# Altium schematic symbol library Amin-Library.SCHLIB: 505 symbols (part 2 of 4)
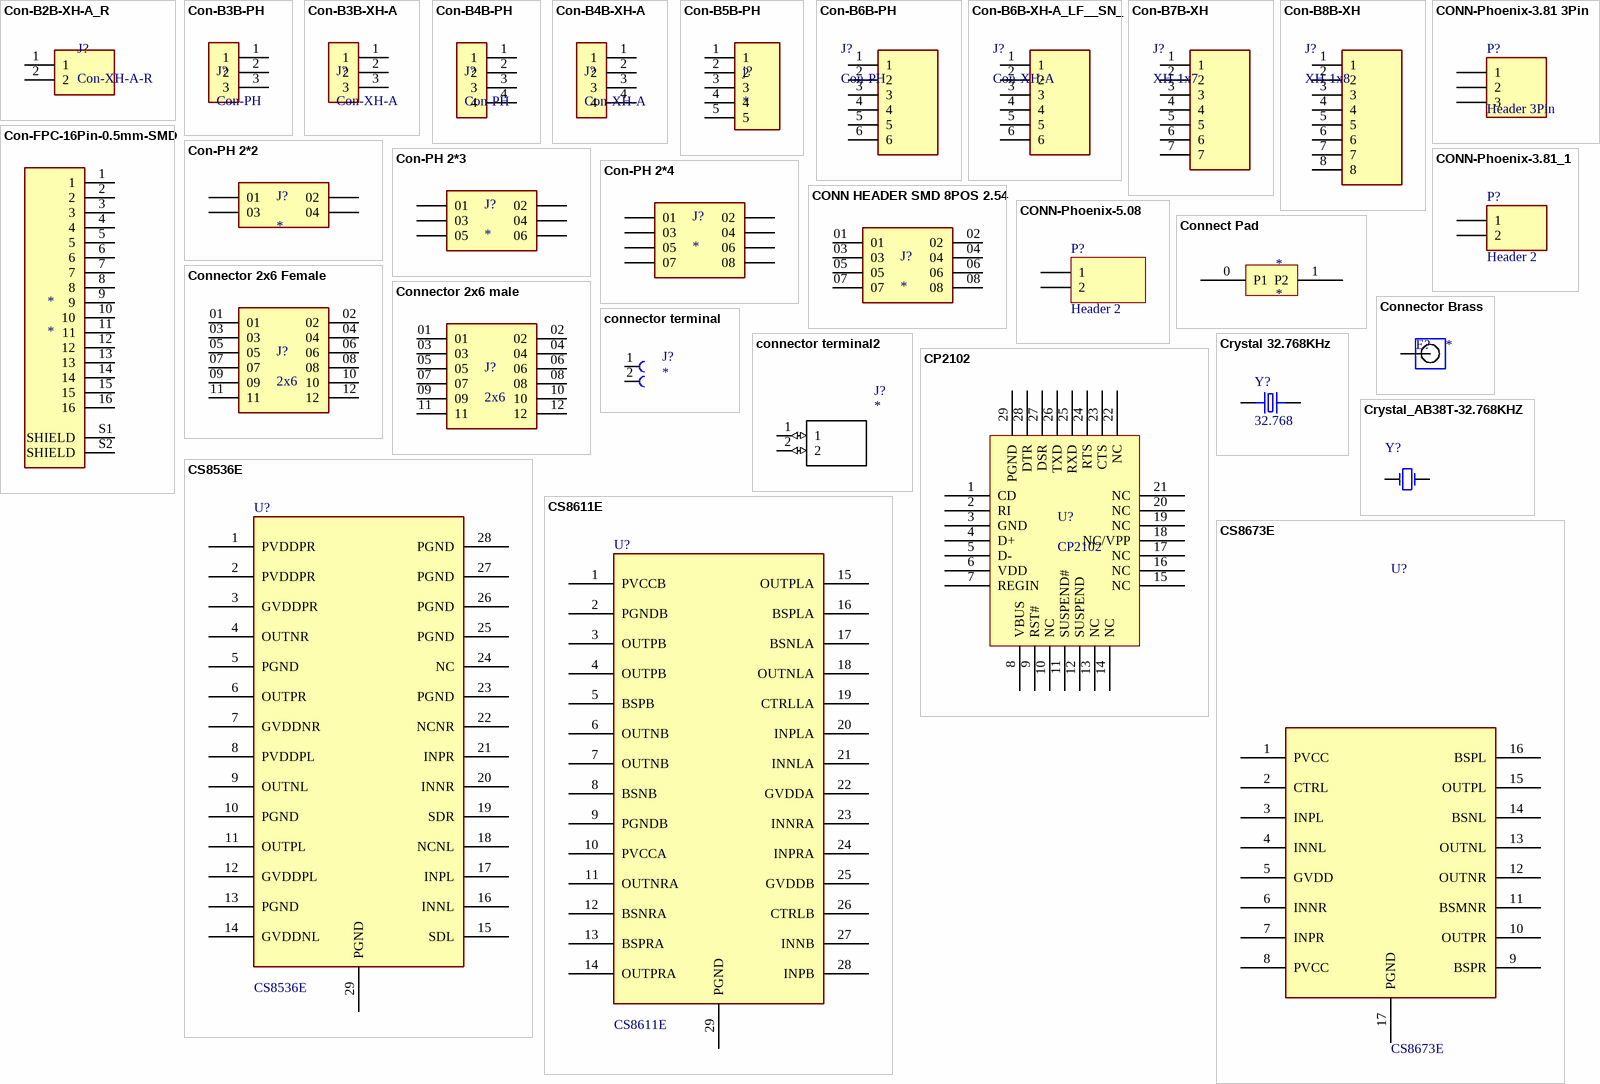
[diagram p19: symbols Con-B2B-XH-A_R to CS8673E]

## connector terminal2
designator J?
5.08mm Pitch Straight PCB Terminal Block with Screw Term.; Through Hole; 2 Way; MP: 4948956; MF: RS Pro; Price: None; Package: None; SnapEDA_Link: https://www.snapeda.com/parts/4948956/RS%20Pro/view-part/1278850/?ref=snap; Availability: Unavailable; Value: *
footprint Connector terminal
pins: 1 (io), 2 (io)

## CP2102
designator U?
USB to USRT converter
footprint QFN28 (PQFN, 28-Leads, Body 5.00x5.00mm, Pitch 0.50mm, Thermal Pad 3.24x3.24mm, IPC Medium Density)
pins: 1 CD, 2 RI, 3 GND, 4 D+, 5 D-, 6 VDD, 7 REGIN, 8 VBUS, 9 RST#, 10 NC, 11 SUSPEND#, 12 SUSPEND, 13 NC, 14 NC, 15 NC, 16 NC, 17 NC, 18 NC/VPP, 19 NC, 20 NC, 21 NC, 22 NC, 23 CTS, 24 RTS, 25 RXD, 26 TXD, 27 DSR, 28 DTR, 29 PGND

## Crystal 32.768KHz
designator Y?, comment 32.768
32.768 KHz Dip ±20ppm 12.5pf; MP: ECS-130-20-3X-TR; MF: ECS Inc.; Value: *; SnapEDA_Link: https://www.snapeda.com/parts/ECS-130-20-3X-TR/ECS%20Inc./view-part/2459108/?ref=snap; Check_prices: https://www.snapeda.com/parts/ECS-130-20-3X-TR/ECS%20Inc./view-part/2459108/?ref=eda; Purchase-URL: https://pricing.snapeda.com/search/part/ECS-130-20-3X-TR/?ref=eda; Availability: Warning; Price: None; Package: HC49/US ECS International
footprint Crystal_32768
pins: 1, 2

## Crystal_AB38T-32.768KHZ
designator Y?  (value not drawn)
MF: ECS International; MP: ECS-320-18-5PXEN-TR; Availability: Unavailable; Price: None; Package: None; SnapEDA_Link: https://www.snapeda.com/parts/ECS-320-18-5PXEN-TR/ECS%20International/view-part/?ref=snap; Value: *
footprint Crystal_AB38T-32.768KHZ (XTAL_AB38T-32.768KHZ)
pins: 1 OSC1, 2 OSC2

## CS8536E
designator U?
AB/D 2X27W; Manufacturer_Name: Chipstar; Height: 2.47mm; Manufacturer_Part_Number: CS8536E; Arrow Part Number: CS8536E; Arrow Price/Stock: https://www.arrow.com/en/products/tda7491hv13tr/stmicroelectronics; Mouser Part Number: 511-TDA7491HV13TR; Mouser Price/Stock: https://www.mouser.com/Search/Refine.aspx?Keyword=511-TDA7491HV13TR
footprint CS8536E (EQA28)
pins: 1 PVDDPR, 2 PVDDPR, 3 GVDDPR, 4 OUTNR, 5 PGND, 6 OUTPR, 7 GVDDNR, 8 PVDDPL, 9 OUTNL, 10 PGND, 11 OUTPL, 12 GVDDPL, 13 PGND, 14 GVDDNL, 15 SDL, 16 INNL, 17 INPL, 18 NCNL, 19 SDR, 20 INNR, 21 INPR, 22 NCNR, 23 PGND, 24 NC, 25 PGND, 26 PGND, 27 PGND, 28 PGND, 29 PGND

## CS8611E
designator U?
2*15W+30W; Height: 2.47mm
footprint CS8611E
pins: 1 PVCCB, 2 PGNDB, 3 OUTPB, 4 OUTPB, 5 BSPB, 6 OUTNB, 7 OUTNB, 8 BSNB, 9 PGNDB, 10 PVCCA, 11 OUTNRA, 12 BSNRA, 13 BSPRA, 14 OUTPRA, 15 OUTPLA, 16 BSPLA, 17 BSNLA, 18 OUTNLA, 19 CTRLLA, 20 INPLA, 21 INNLA, 22 GVDDA, 23 INNRA, 24 INPRA, 25 GVDDB, 26 CTRLB, 27 INNB, 28 INPB, 29 PGND

## CS8673E
designator U?
AB/D 2X40W BTL & 80W PBTL ESOP16; Manufacturer_Name: Chipstar; Manufacturer_Part_Number: CS8679E; Height: 2.47mm; Arrow Part Number: CS8679E; Arrow Price/Stock: https://www.arrow.com/en/products/tda7491hv13tr/stmicroelectronics; Mouser Part Number: 511-TDA7491HV13TR; Mouser Price/Stock: https://www.mouser.com/Search/Refine.aspx?Keyword=511-TDA7491HV13TR
footprint CS8673E (ESOP16)
pins: 1 PVCC, 2 CTRL, 3 INPL, 4 INNL, 5 GVDD, 6 INNR, 7 INPR, 8 PVCC, 9 BSPR, 10 OUTPR, 11 BSMNR, 12 OUTNR, 13 OUTNL, 14 BSNL, 15 OUTPL, 16 BSPL, 17 PGND

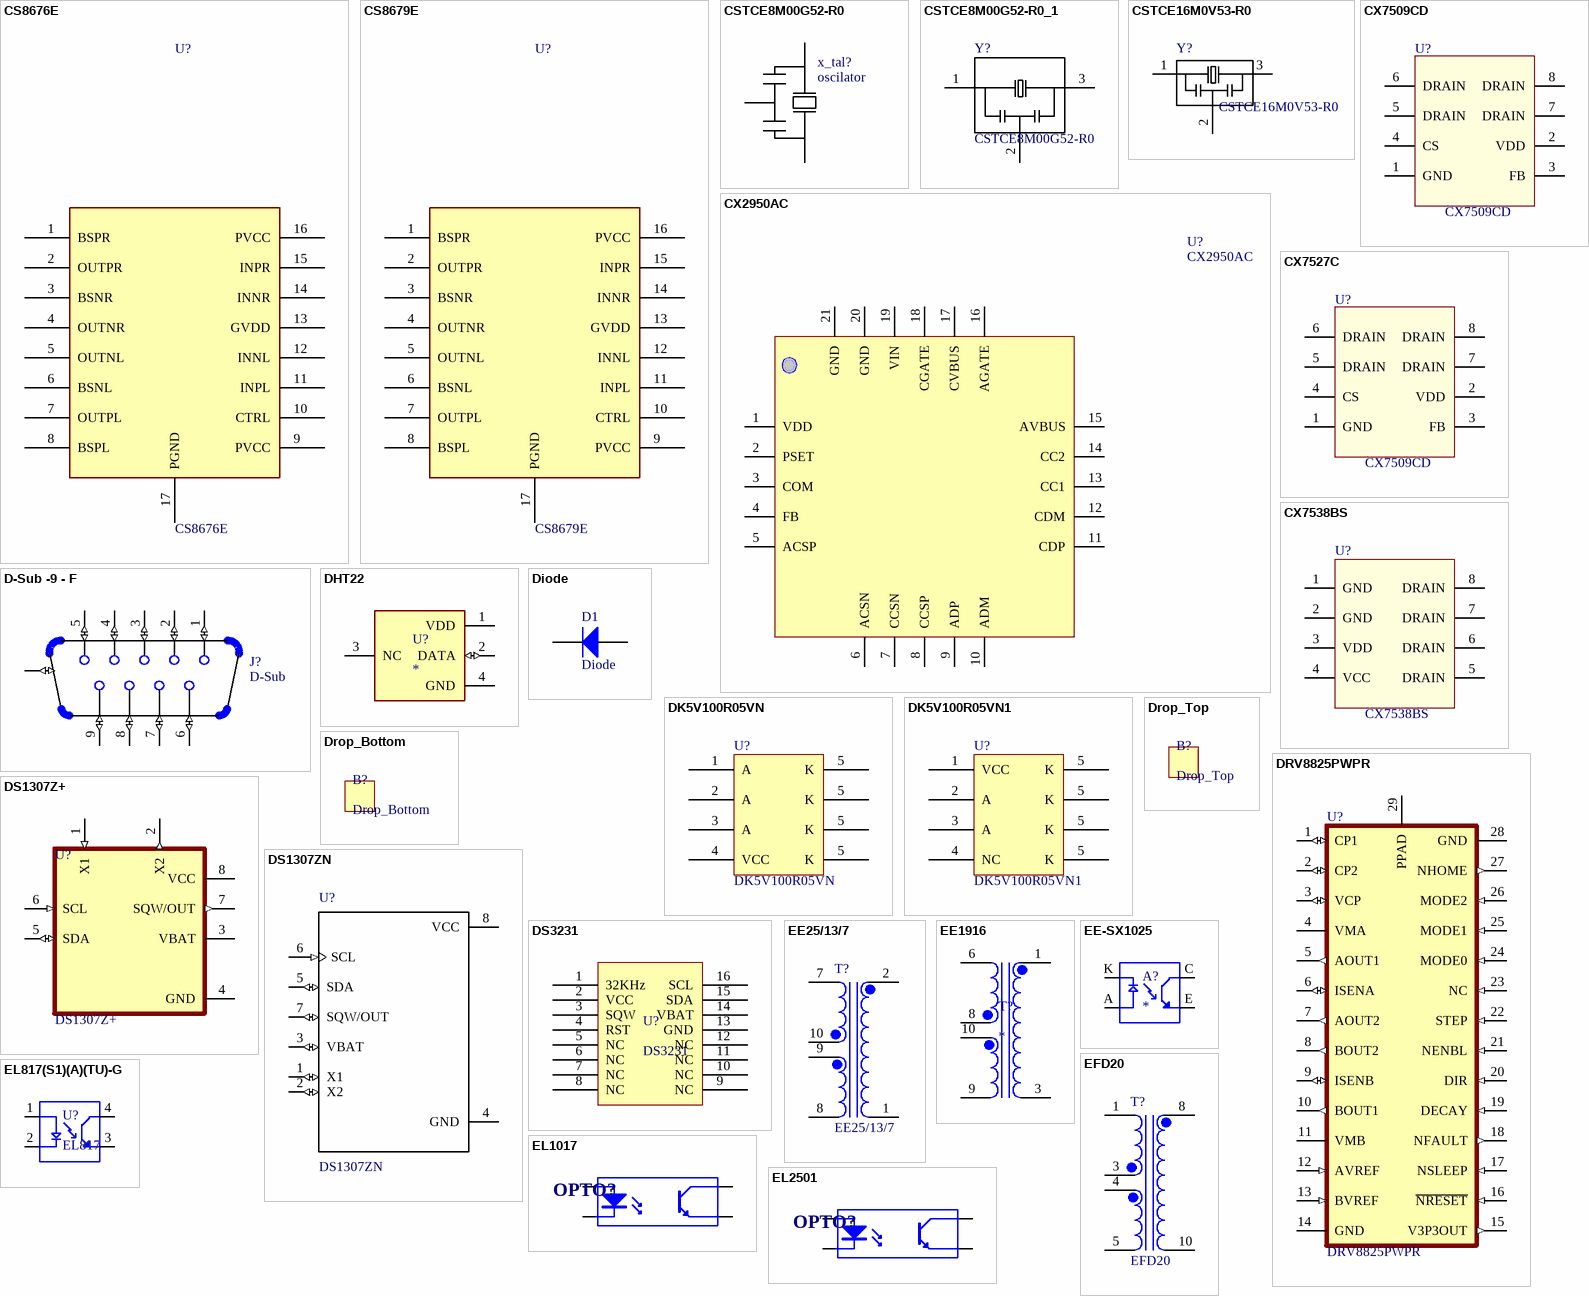
[diagram p5: symbols CS8676E to EL2501]

## CS8676E
designator U?
AB/D 2X33W BTL & 68W PBTL ESOP16; Manufacturer_Name: Chipstar; Manufacturer_Part_Number: CS8679E; Height: 2.47mm; Arrow Part Number: CS8679E; Arrow Price/Stock: https://www.arrow.com/en/products/tda7491hv13tr/stmicroelectronics; Mouser Part Number: 511-TDA7491HV13TR; Mouser Price/Stock: https://www.mouser.com/Search/Refine.aspx?Keyword=511-TDA7491HV13TR
footprint CS8676 (ESOP16)
pins: 1 BSPR, 2 OUTPR, 3 BSNR, 4 OUTNR, 5 OUTNL, 6 BSNL, 7 OUTPL, 8 BSPL, 9 PVCC, 10 CTRL, 11 INPL, 12 INNL, 13 GVDD, 14 INNR, 15 INPR, 16 PVCC, 17 PGND

## CS8679E
designator U?
AB/D 2X28W BTL & 50W PBTL; Manufacturer_Name: Chipstar; Height: 2.47mm; Manufacturer_Part_Number: CS8679E; Arrow Part Number: CS8679E; Arrow Price/Stock: https://www.arrow.com/en/products/tda7491hv13tr/stmicroelectronics; Mouser Part Number: 511-TDA7491HV13TR; Mouser Price/Stock: https://www.mouser.com/Search/Refine.aspx?Keyword=511-TDA7491HV13TR
footprint CS8679 (EQA16)
pins: 1 BSPR, 2 OUTPR, 3 BSNR, 4 OUTNR, 5 OUTNL, 6 BSNL, 7 OUTPL, 8 BSPL, 9 PVCC, 10 CTRL, 11 INPL, 12 INNL, 13 GVDD, 14 INNR, 15 INPR, 16 PVCC, 17 PGND

## CSTCE8M00G52-R0
designator x_tal?, comment oscilator
Imported; Manufacturer_Part_Number: CSTCE8M00G52-R0; Vendor: Murata; C: Copyright (C) 2016 Accelerated Designs. All rights reserved; Copyright: Copyright (C) 2016 Accelerated Designs. All rights reserved; Value: Value
footprint CSTCE
pins: 1, 2, 3

## CSTCE8M00G52-R0_1
designator Y?, comment CSTCE8M00G52-R0
CSTCE Series 8 MHz 3.2 x 1.3 x 0.7 mm Built-in Capacitor SMT Resonator; MF: Murata; Availability: Unavailable; Price: None; Package: 1206 Murata; SnapEDA_Link: https://www.snapeda.com/parts/CSTCE8M00G52-R0/Murata%20Electronics%20North%20America/view-part/?ref=snap; MP: CSTCE8M00G52-R0; Value: *
footprint *OSC_CSTCE8M00G52-R0
pins: 1, 2 (power), 3

## CSTCE16M0V53-R0
designator Y?
Ceramic Resonator 16MHz ??0.5% _Tol_ ??0.3% _Stability_ 15pF 40Ohm 3-Pin CSMD T/R; MF: Murata; MP: CSTCE16M0V53-R0; Availability: Unavailable; Package: SMD-3 Murata; Price: None; SnapEDA_Link: https://www.snapeda.com/parts/CSTCE16M0V53-R0/Murata%20Electronics%20North%20America/view-part/?ref=snap; Value: *
footprint CSTCE
pins: 1, 2 (power), 3

## CX2950AC
designator U?
PD 18W & 27W
footprint CX2950AC (QFN20_4X4)
pins: 1 VDD, 2 PSET, 3 COM, 4 FB, 5 ACSP, 6 ACSN, 7 CCSN, 8 CCSP, 9 ADP, 10 ADM, 11 CDP, 12 CDM, 13 CC1, 14 CC2, 15 AVBUS, 16 AGATE, 17 CVBUS, 18 CGATE, 19 VIN, 20 GND, 21 GND

## CX7509CD
designator U?
PWM Controller of High-performance CX7509CD SOP8; MF: Toshiba Semiconductor; MP: TPHR8504PL,L1Q; Package: SOP-8 Toshiba; Price: None; Value: *; SnapEDA_Link: https://www.snapeda.com/parts/TPHR8504PL,L1Q/Toshiba%20Semiconductor%20and%20Storage/view-part/604439/?ref=snap; Availability: Unavailable
footprint CX7509CD (SOP8)
pins: 1 GND, 2 VDD (power), 3 FB (power), 4 CS, 5 DRAIN, 6 DRAIN, 7 DRAIN, 8 DRAIN

## CX7527C
designator U?, comment CX7509CD
PWM Controller of High-performance CX7527CD SOP8; MF: Toshiba Semiconductor; MP: TPHR8504PL,L1Q; Package: SOP-8 Toshiba; Price: None; Value: *; SnapEDA_Link: https://www.snapeda.com/parts/TPHR8504PL,L1Q/Toshiba%20Semiconductor%20and%20Storage/view-part/604439/?ref=snap; Availability: Unavailable
footprint CX7527C (SOP8)
pins: 1 GND, 2 VDD (power), 3 FB (power), 4 CS, 5 DRAIN, 6 DRAIN, 7 DRAIN, 8 DRAIN

## CX7538BS
designator U?
High-Performance / Switching Power Supply / Secondary Synchronous Rectifier IC; MF: Toshiba Semiconductor; MP: TPHR8504PL,L1Q; Package: SOP-8 Toshiba; Price: None; Value: *; SnapEDA_Link: https://www.snapeda.com/parts/TPHR8504PL,L1Q/Toshiba%20Semiconductor%20and%20Storage/view-part/604439/?ref=snap; Availability: Unavailable
footprint CX7538BS (SOP8)
pins: 1 GND, 2 GND (power), 3 VDD (power), 4 VCC, 5 DRAIN, 6 DRAIN, 7 DRAIN, 8 DRAIN

## D-Sub -9 - F
designator J?, comment D-Sub
10.3mm 9 way 90deg D-sub PCB Socket; MP: 618009231321; MF: WÃ¼rth Elektronik; Availability: Unavailable; Package: None; SnapEDA_Link: https://www.snapeda.com/parts/618009231321/W%C3%BCrth%20Elektronik/view-part/?ref=snap; Price: None; Value: *
footprint *618009231321_618009231321(Primary)
pins: 1 (io), 2 (io), 3 (io), 4 (io), 5 (io), 6 (io), 7 (io), 8 (io), 9 (io), SHELL SHIELD (io), SHELL1 SHIELD (io)

## DHT22
designator U?
MP: DHT22; Package: None; Price: None; Value: *; Availability: Unavailable
footprint DHT22_Right
footprint DHT22_Vertical
pins: 1 VDD (power), 2 DATA (io), 3 NC, 4 GND (power)

## Diode
designator D1
Default Diode; Published: 8-Jun-2000; LatestRevisionDate: 17-Jul-2002; LatestRevisionNote: Re-released for DXP Platform.; PackageVersion: Sep-1996; PackageReference: SMC; Publisher: Altium Limited; PackageDescription: DO-214-AB/SMC; 2 C-Bend Leads; Body 7.9 x 5.9 mm, inc. leads (LxW); Code_JEDEC: DO-214-AB
footprint Diode (JEDEC DO-214 variation AC. SMA)
pins: 1 A, 2 K

## DK5V100R05VN
designator U?
footprint DK5V100R05VN (DFN5*6)
pins: 1 A, 2 A, 3 A, 4 VCC, 5 K, 5 K, 5 K, 5 K

## DK5V100R05VN1
designator U?
footprint DK5V100R05VN1 (DFN5*6)
pins: 1 VCC, 2 A, 3 A, 4 NC, 5 K, 5 K, 5 K, 5 K

## Drop_Bottom
designator B?
footprint Drop_Bottom

## Drop_Top
designator B?
footprint Drop_Top

## DRV8825PWPR
designator U?
45-V, 2.5-A bipolar stepper motor driver with current regulation and 1/32 microstepping 28-HTSSOP -40 to 85; MF: Texas Instruments; Package: HTSSOP-28 Texas Instruments; SnapEDA_Link: https://www.snapeda.com/parts/DRV8825PWPR/Texas%20Instruments/view-part/448611/?ref=snap; Digi-Key_Part_Number: 296-29503-1-ND; MP: DRV8825PWPR; Mouser-Purchase-URL: https://snapeda.com/shop?store=Mouser&id=448611; Value: *; Texas_Instruments-Purchase-URL: https://snapeda.com/shop?store=Texas+Instruments&id=448611; Arrow_Electronics-Purchase-URL: https://snapeda.com/shop?store=Arrow+Electronics&id=448611
footprint DRV8825PWPR (HTSSOP-28)
pins: 1 CP1 (io), 2 CP2 (io), 3 VCP (io), 4 VMA (power), 5 AOUT1 (out), 6 ISENA (io), 7 AOUT2 (out), 8 BOUT2 (out), 9 ISENB (io), 10 BOUT1 (out), 11 VMB (power), 12 AVREF (in), 13 BVREF (in), 14 GND (power), 15 V3P3OUT (out), 16 ~{NRESET} (in), 17 NSLEEP (in), 18 NFAULT (out), 19 DECAY (in), 20 DIR (in), 21 NENBL (in), 22 STEP (in), 23 NC (in), 24 MODE0 (in), 25 MODE1 (in), 26 MODE2 (in), 27 NHOME (out), 28 GND (power), 29 PPAD (power)

## DS1307Z+
designator U?
Real Time Clock _RTC_ IC Clock/Calendar 56B IÂ²C, 2-Wire Serial 8-SOIC _0.154, 3.90mm Width_; MF: Maxim Integrated; Availability: Unavailable; SnapEDA_Link: https://www.snapeda.com/parts/DS1307Z/Maxim%20Integrated/view-part/524266/?ref=snap; Price: None; Package: SO-8 Maxim Integrated; MP: DS1307Z; Value: *
footprint DS1307
pins: 1 X1 (in), 2 X2 (out), 3 VBAT (power), 4 GND (power), 5 SDA (io), 6 SCL (in), 7 SQW/OUT (out), 8 VCC (power)

## DS1307ZN
designator U?
Real Time Clock Serial 56Byte 8-Pin SOIC N; MF: Maxim Integrated; Availability: Unavailable; MP: DS1307ZN; Package: SO-8 Maxim Integrated; SnapEDA_Link: https://www.snapeda.com/parts/DS1307ZN/Maxim%20Integrated/view-part/?ref=snap; Price: None; Value: *
footprint DS1307
pins: 1 X1 (io), 2 X2 (io), 3 VBAT (io), 4 GND (power), 5 SDA (io), 6 SCL (in), 7 SQW/OUT (io), 8 VCC (power)

## DS3231
designator U?
RTC
footprint 16SO.300_N (16-Pin Small Outline Integrated Circuit 1.27 mm Pitch, IPC Medium Density)
pins: 1 32KHz, 2 VCC, 3 SQW, 4 RST, 5 NC, 6 NC, 7 NC, 8 NC, 9 NC, 10 NC, 11 NC, 12 NC, 13 GND, 14 VBAT, 15 SDA, 16 SCL

## EE25/13/7
designator T?
EE25/13/7 WITHOUT GAP; MP: 14A-10R-16; Package: None; Price: None; Value: *; Availability: Unavailable
footprint EFD20
pins: 1, 2, 7, 8, 9, 10

## EE1916
designator T?
EE1916 WITHOUT GAP; MP: 14A-10R-16; Package: None; Price: None; Value: *; Availability: Unavailable
footprint EE1916
pins: 1, 2, 3, 4, 6, 8, 9, 10

## EE-SX1025
designator A?
Photointerrupter Transmissive 2.8mm Photologic, Open Collector 4-Pin; MF: Omron; MP: EESX1025; Value: *; Package: PCB Mount Omron; Check_prices: https://www.snapeda.com/parts/EESX1025/Omron/view-part/4303682/?ref=eda; Price: None; Availability: Warning; SnapEDA_Link: https://www.snapeda.com/parts/EESX1025/Omron/view-part/4303682/?ref=snap
footprint Photointerrupte XDCR_EE-SX1025
pins: A, C, E, K

## EFD20
designator T?
EE1916 WITHOUT GAP; MP: 14A-10R-16; Package: None; Price: None; Value: *; Availability: Unavailable
footprint EFD20
pins: 1, 3, 4, 5, 7, 8, 9, 10

## EL817(S1)(A)(TU)-G
designator U?, comment EL817
Optoisoltr 5kv Transistor 4-Smd; MP: EL817(S1)(A)(TU)-G; Package: None; Price: None; Value: *; Availability: Unavailable
footprint EL817
pins: 1 A, 2 C, 3 ET, 4 CT

## EL1017
designator OPTO?
4 PIN DIP PHOTOTRANSISTOR / PHOTOCOUPLER; Published: 24-Mar-1999; Revision: July-2002: Re-released for DXP Platform.; Publisher: Altium Limited
footprint EL1017 (SOP-4-P2.54-Long)
pins: 1 A, 2 K, 3 E, 4 C
2 alternate drawings of the same symbol

## EL2501
designator OPTO?
4 PIN DIP PHOTOTRANSISTOR / PHOTOCOUPLER; Published: 24-Mar-1999; Revision: July-2002: Re-released for DXP Platform.; Publisher: Altium Limited
footprint EL2501 (4 PIN DIP PHOTOTRANSISTOR  PHOTOCOUPLER  DIP-4)
pins: 1 A, 2 K, 3 E, 4 C
2 alternate drawings of the same symbol

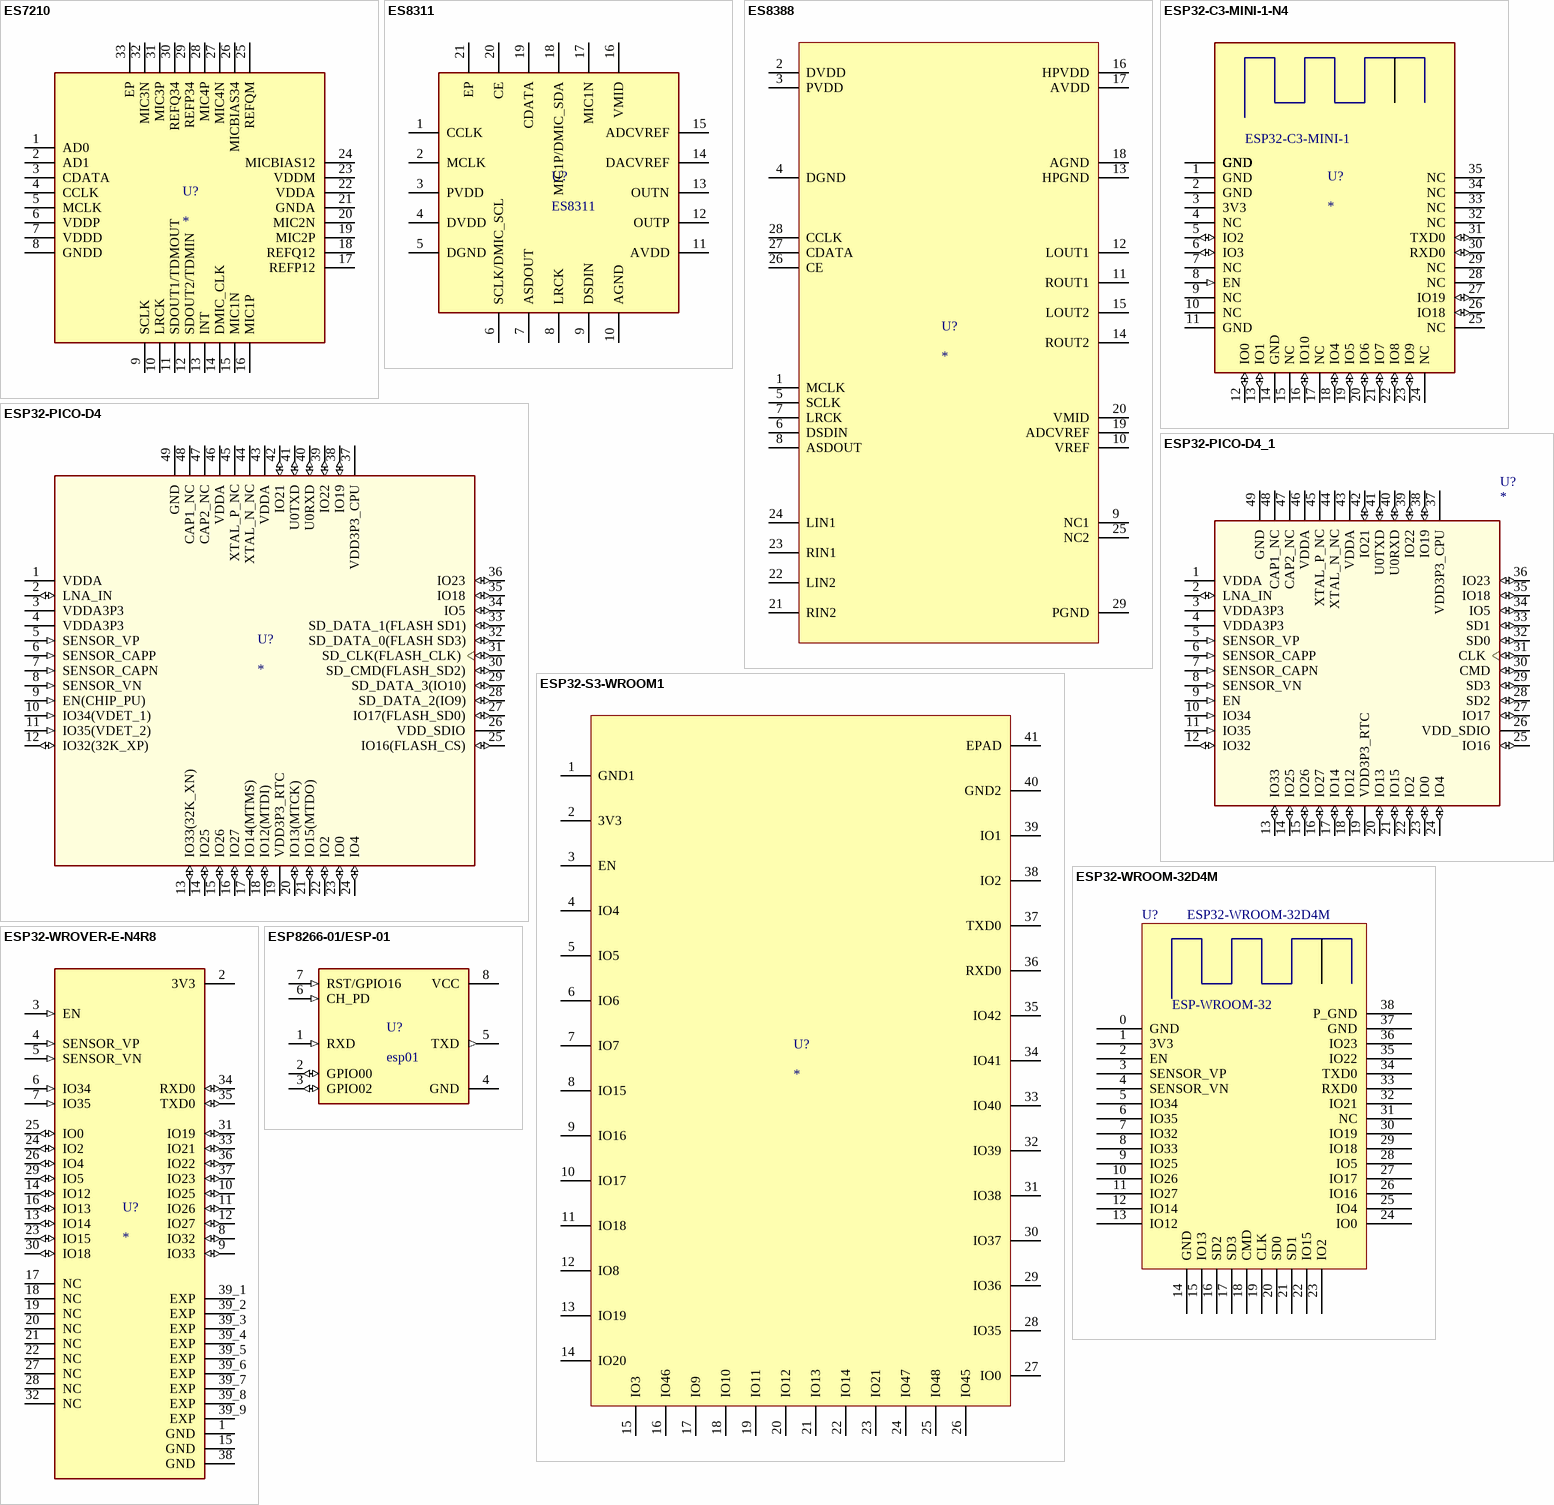
[diagram p6: symbols ES7210 to ESP8266-01/ESP-01]

## ES7210
designator U?
High Performance Four Channels Audio ADC
pins: 1 AD0, 2 AD1, 3 CDATA, 4 CCLK, 5 MCLK, 6 VDDP, 7 VDDD, 8 GNDD, 9 SCLK, 10 LRCK, 11 SDOUT1/TDMOUT, 12 SDOUT2/TDMIN, 13 INT, 14 DMIC_CLK, 15 MIC1N, 16 MIC1P, 17 REFP12, 18 REFQ12, 19 MIC2P, 20 MIC2N, 21 GNDA, 22 VDDA, 23 VDDM, 24 MICBIAS12, 25 REFQM, 26 MICBIAS34, 27 MIC4N, 28 MIC4P, 29 REFP34, 30 REFQ34, 31 MIC3P, 32 MIC3N, 33 EP

## ES8311
designator U?
Low Power Mono Audio CODEC
pins: 1 CCLK, 2 MCLK, 3 PVDD, 4 DVDD, 5 DGND, 6 SCLK/DMIC_SCL, 7 ASDOUT, 8 LRCK, 9 DSDIN, 10 AGND, 11 AVDD, 12 OUTP, 13 OUTN, 14 DACVREF, 15 ADCVREF, 16 VMID, 17 MIC1N, 18 MIC1P/DMIC_SDA, 19 CDATA, 20 CE, 21 EP

## ES8388
designator U?
Low Power Stereo Audio CODEC With Headphone Amplifier
pins: 1 MCLK, 2 DVDD, 3 PVDD, 4 DGND, 5 SCLK, 6 DSDIN, 7 LRCK, 8 ASDOUT, 9 NC1, 10 VREF, 11 ROUT1, 12 LOUT1, 13 HPGND, 14 ROUT2, 15 LOUT2, 16 HPVDD, 17 AVDD, 18 AGND, 19 ADCVREF, 20 VMID, 21 RIN2, 22 LIN2, 23 RIN1, 24 LIN1, 25 NC2, 26 CE, 27 CDATA, 28 CCLK, 29 PGND

## ESP32-C3-MINI-1-N4
designator U?
MF: {'manufacturer': u'Espressif Systems'}; MP: ESP32-C3-MINI-1-N4; Package: None; Price: None; Value: *; Availability: Unavailable
footprint ESP32-C3-MINI-1
pins: 1 GND (power), 2 GND (power), 3 3V3 (power), 4 NC, 5 IO2 (io), 6 IO3 (io), 7 NC, 8 EN (in), 9 NC, 10 NC, 11 GND (power), 12 IO0 (io), 13 IO1 (io), 14 GND (power), 15 NC, 16 IO10 (io), 17 NC, 18 IO4 (io), 19 IO5 (io), 20 IO6 (io), 21 IO7 (io), 22 IO8 (io), 23 IO9 (io), 24 NC, 25 NC, 26 IO18 (io), 27 IO19 (io), 28 NC, 29 NC, 30 RXD0 (io), 31 TXD0 (io), 32 NC, 33 NC, 34 NC, 35 NC, 36 GND (power), 37 GND (power), 38 GND (power), 39 GND (power), 40 GND (power), 41 GND (power), 42 GND (power), 43 GND (power), 44 GND (power), 45 GND (power), 46 GND (power), 47 GND (power), 48 GND (power), 49_1 GND (power), 49_2 GND (power), 49_3 GND (power), 49_4 GND (power), 49_5 GND (power), 49_6 GND (power), 49_7 GND (power), 49_8 GND (power), 49_9 GND (power), 50 GND (power), 51 GND (power), 52 GND (power), 53 GND (power)
text: ESP32-C3-MINI-1

## ESP32-PICO-D4
designator U?
Bluetooth, WiFi 802.11b/g/n, Bluetooth v4.2 +EDR, Class 1, 2 and 3 Transceiver Module 2.4GHz ~ 2.5GHz Surface Mount; MP: ESP32-PICO-D4; MF: Espressif Systems; Package: SMD-48 Espressif Systems; Availability: Warning; Price: None; Purchase-URL: https://pricing.snapeda.com/search/part/ESP32-PICO-D4/?ref=eda; Check_prices: https://www.snapeda.com/parts/ESP32-PICO-D4/Espressif%20Systems/view-part/2762121/?ref=eda; SnapEDA_Link: https://www.snapeda.com/parts/ESP32-PICO-D4/Espressif%20Systems/view-part/2762121/?ref=snap; Value: *
footprint ESP32-PICO-D4
pins: 1 VDDA (power), 2 LNA_IN (io), 3 VDDA3P3 (power), 4 VDDA3P3 (power), 5 SENSOR_VP (in), 6 SENSOR_CAPP (in), 7 SENSOR_CAPN (in), 8 SENSOR_VN (in), 9 EN(CHIP_PU) (in), 10 IO34(VDET_1) (in), 11 IO35(VDET_2) (in), 12 IO32(32K_XP) (io), 13 IO33(32K_XN) (io), 14 IO25 (io), 15 IO26 (io), 16 IO27 (io), 17 IO14(MTMS) (io), 18 IO12(MTDI) (io), 19 VDD3P3_RTC (power), 20 IO13(MTCK) (io), 21 IO15(MTDO) (io), 22 IO2 (io), 23 IO0 (io), 24 IO4 (io), 25 IO16(FLASH_CS) (io), 26 VDD_SDIO (power), 27 IO17(FLASH_SD0) (io), 28 SD_DATA_2(IO9) (io), 29 SD_DATA_3(IO10) (io), 30 SD_CMD(FLASH_SD2) (io), 31 SD_CLK(FLASH_CLK) (io), 32 SD_DATA_0(FLASH SD3) (io), 33 SD_DATA_1(FLASH SD1) (io), 34 IO5 (io), 35 IO18 (io), 36 IO23 (io), 37 VDD3P3_CPU (power), 38 IO19 (io), 39 IO22 (io), 40 U0RXD (io), 41 U0TXD (io), 42 IO21 (io), 43 VDDA (power), 44 XTAL_N_NC, 45 XTAL_P_NC, 46 VDDA (power), 47 CAP2_NC, 48 CAP1_NC, 49 GND (power)

## ESP32-PICO-D4_1
designator U?
Bluetooth, WiFi 802.11b/g/n, Bluetooth v4.2 +EDR, Class 1, 2 and 3 Transceiver Module 2.4GHz ~ 2.5GHz Surface Mount; MP: ESP32-PICO-D4; MF: Espressif Systems; Package: SMD-48 Espressif Systems; Availability: Warning; Price: None; Purchase-URL: https://pricing.snapeda.com/search/part/ESP32-PICO-D4/?ref=eda; Check_prices: https://www.snapeda.com/parts/ESP32-PICO-D4/Espressif%20Systems/view-part/2762121/?ref=eda; SnapEDA_Link: https://www.snapeda.com/parts/ESP32-PICO-D4/Espressif%20Systems/view-part/2762121/?ref=snap; Value: *
footprint ESP32-PICO-D4
pins: 1 VDDA (power), 2 LNA_IN (io), 3 VDDA3P3 (power), 4 VDDA3P3 (power), 5 SENSOR_VP (in), 6 SENSOR_CAPP (in), 7 SENSOR_CAPN (in), 8 SENSOR_VN (in), 9 EN (in), 10 IO34 (in), 11 IO35 (in), 12 IO32 (io), 13 IO33 (io), 14 IO25 (io), 15 IO26 (io), 16 IO27 (io), 17 IO14 (io), 18 IO12 (io), 19 VDD3P3_RTC (power), 20 IO13 (io), 21 IO15 (io), 22 IO2 (io), 23 IO0 (io), 24 IO4 (io), 25 IO16 (io), 26 VDD_SDIO (power), 27 IO17 (io), 28 SD2 (io), 29 SD3 (io), 30 CMD (io), 31 CLK (io), 32 SD0 (io), 33 SD1 (io), 34 IO5 (io), 35 IO18 (io), 36 IO23 (io), 37 VDD3P3_CPU (power), 38 IO19 (io), 39 IO22 (io), 40 U0RXD (io), 41 U0TXD (io), 42 IO21 (io), 43 VDDA (power), 44 XTAL_N_NC, 45 XTAL_P_NC, 46 VDDA (power), 47 CAP2_NC, 48 CAP1_NC, 49 GND (power)

## ESP32-S3-WROOM1
designator U?
footprint ESP32-S3-WROOM1N16R8
pins: 1 GND1, 2 3V3, 3 EN, 4 IO4, 5 IO5, 6 IO6, 7 IO7, 8 IO15, 9 IO16, 10 IO17, 11 IO18, 12 IO8, 13 IO19, 14 IO20, 15 IO3, 16 IO46, 17 IO9, 18 IO10, 19 IO11, 20 IO12, 21 IO13, 22 IO14, 23 IO21, 24 IO47, 25 IO48, 26 IO45, 27 IO0, 28 IO35, 29 IO36, 30 IO37, 31 IO38, 32 IO39, 33 IO40, 34 IO41, 35 IO42, 36 RXD0, 37 TXD0, 38 IO2, 39 IO1, 40 GND2, 41 EPAD

## ESP32-WROOM-32D4M
designator U?
ESP32-WROOM-32D 4M
footprint ESP32-wroom
pins: 0 GND, 1 3V3, 2 EN, 3 SENSOR_VP, 4 SENSOR_VN, 5 IO34, 6 IO35, 7 IO32, 8 IO33, 9 IO25, 10 IO26, 11 IO27, 12 IO14, 13 IO12, 14 GND, 15 IO13, 16 SD2, 17 SD3, 18 CMD, 19 CLK, 20 SD0, 21 SD1, 22 IO15, 23 IO2, 24 IO0, 25 IO4, 26 IO16, 27 IO17, 28 IO5, 29 IO18, 30 IO19, 31 NC, 32 IO21, 33 RXD0, 34 TXD0, 35 IO22, 36 IO23, 37 GND, 38 P_GND
text: ESP-WROOM-32

## ESP32-WROVER-E-N4R8
designator U?
Bluetooth, WiFi 802.11b/g/n, Bluetooth v4.2 +EDR Transceiver Module 2.4GHz ~ 2.5GHz PCB Trace Surface Mount; MF: Espressif Systems; MP: ESP32WROVEREN4R8; SnapEDA_Link: https://www.snapeda.com/parts/ESP32WROVEREN4R8/Espressif+Systems/view-part/?ref=snap; Price: None; Check_prices: https://www.snapeda.com/parts/ESP32WROVEREN4R8/Espressif+Systems/view-part/?ref=eda; Value: *; Package: None; Availability: In Stock; Purchase-URL: https://pricing.snapeda.com/search/part/ESP32WROVEREN4R8/?ref=eda
footprint ESP32-WROVER-E-N4R8
pins: 1 GND (power), 2 3V3 (power), 3 EN (in), 4 SENSOR_VP (in), 5 SENSOR_VN (in), 6 IO34 (in), 7 IO35 (in), 8 IO32 (io), 9 IO33 (io), 10 IO25 (io), 11 IO26 (io), 12 IO27 (io), 13 IO14 (io), 14 IO12 (io), 15 GND (power), 16 IO13 (io), 17 NC, 18 NC, 19 NC, 20 NC, 21 NC, 22 NC, 23 IO15 (io), 24 IO2 (io), 25 IO0 (io), 26 IO4 (io), 27 NC, 28 NC, 29 IO5 (io), 30 IO18 (io), 31 IO19 (io), 32 NC, 33 IO21 (io), 34 RXD0 (io), 35 TXD0 (io), 36 IO22 (io), 37 IO23 (io), 38 GND (power), 39_1 EXP (power), 39_2 EXP (power), 39_3 EXP (power), 39_4 EXP (power), 39_5 EXP (power), 39_6 EXP (power), 39_7 EXP (power), 39_8 EXP (power), 39_9 EXP (power)

## ESP8266-01/ESP-01
designator U?, comment esp01
ESP-01 wifi module; MP: ESP8266-01/ESP-01; MF: AI-Thinker; Package: None; Availability: Unavailable; Value: *; SnapEDA_Link: https://www.snapeda.com/parts/ESP8266-01/ESP-01/AI-Thinker/view-part/106413/?ref=snap; Price: None
footprint ESP8266-01/ESP-01
pins: 1 RXD (in), 2 GPIO00 (io), 3 GPIO02 (io), 4 GND (power), 5 TXD (out), 6 CH_PD (in), 7 RST/GPIO16 (in), 8 VCC (power)

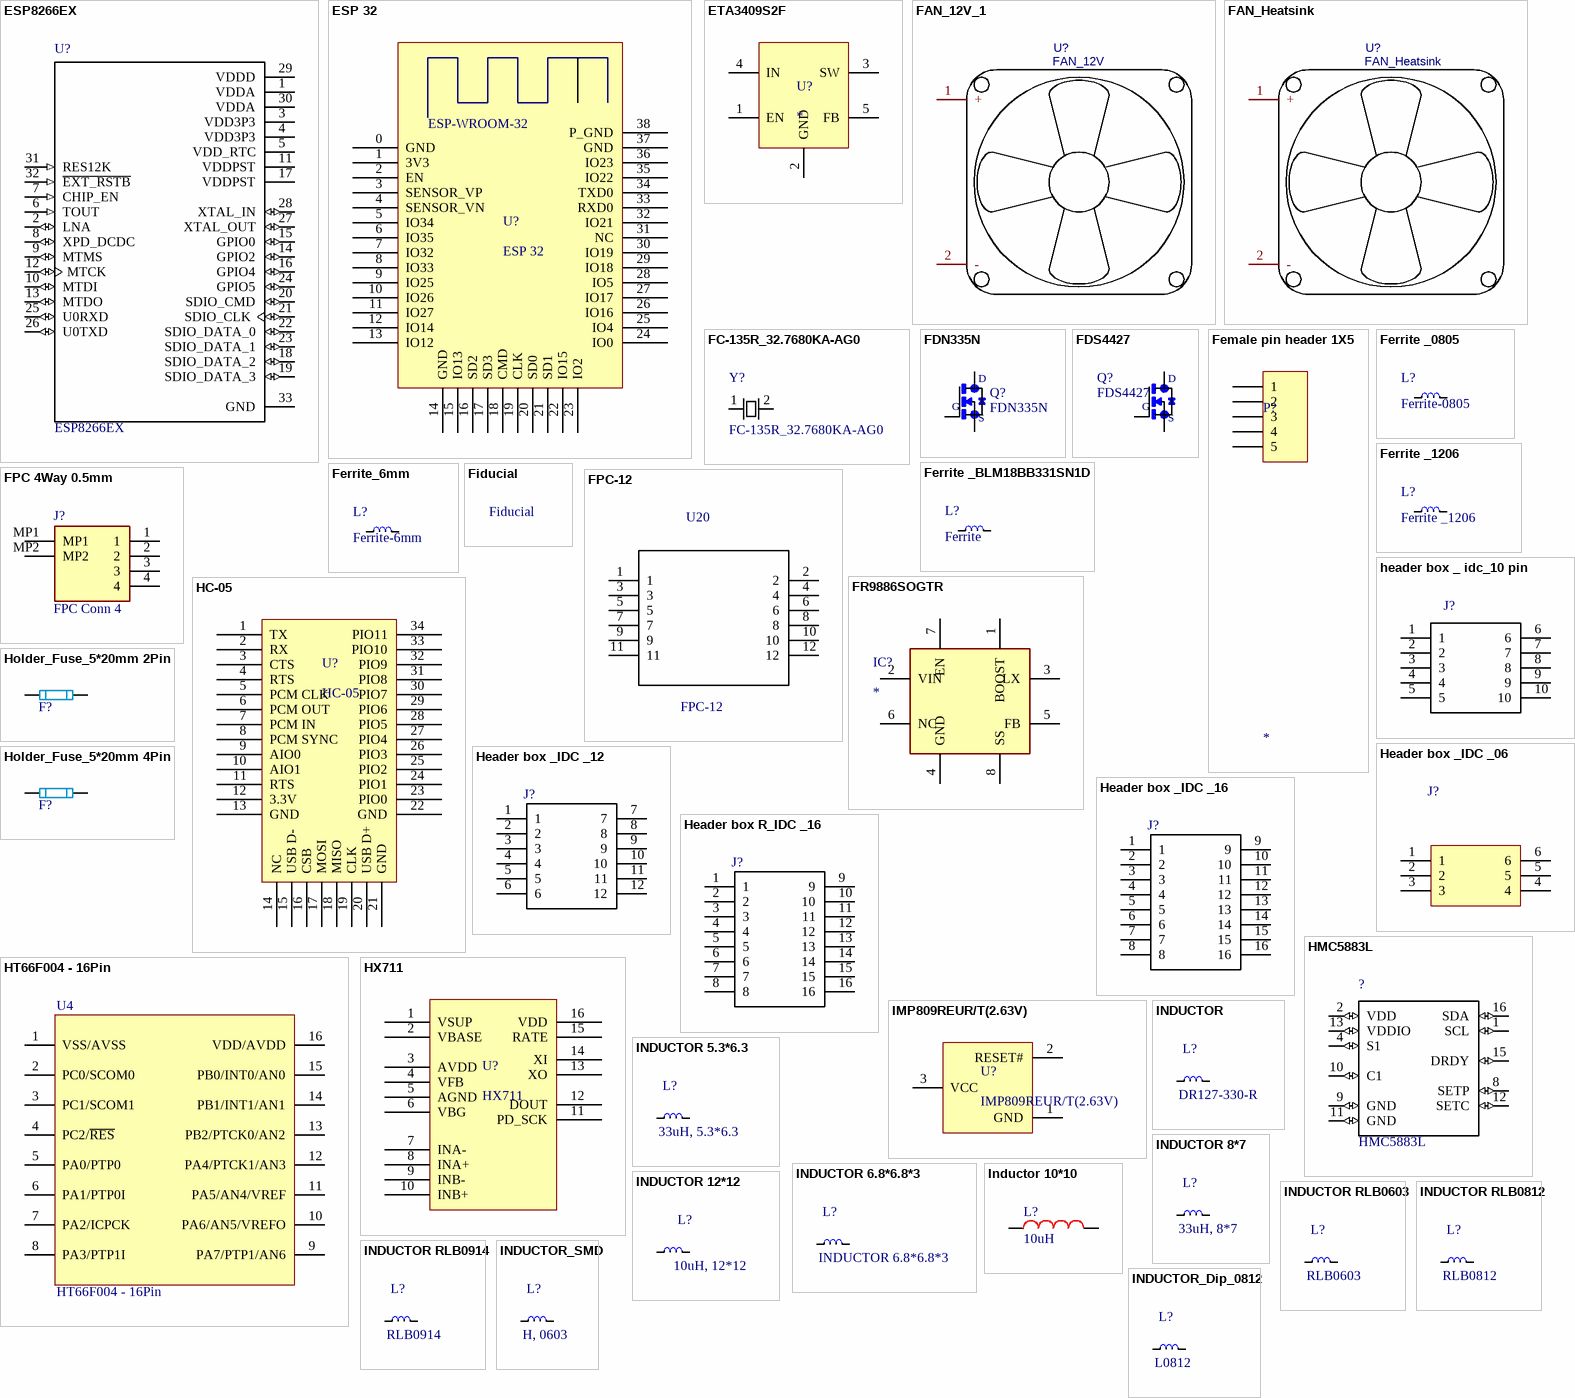
[diagram p7: symbols ESP8266EX to INDUCTOR_SMD]

## ESP8266EX
designator U?
IC RF TxRx + MCU WiFi 802.11b/g/n 2.4GHz 32-VFQFN Exposed Pad; MF: Espressif Systems; SnapEDA_Link: https://www.snapeda.com/parts/ESP8266EX/Espressif%20Systems/view-part/555861/?ref=snap; Price: None; MP: ESP8266EX; Availability: Unavailable; Package: VFQFN-32 Espressif Systems; Value: *
footprint esp82266
pins: 1 VDDA (power), 2 LNA (io), 3 VDD3P3 (power), 4 VDD3P3 (power), 5 VDD_RTC (power), 6 TOUT (in), 7 CHIP_EN (in), 8 XPD_DCDC (io), 9 MTMS (io), 10 MTDI (io), 11 VDDPST (power), 12 MTCK (io), 13 MTDO (io), 14 GPIO2 (io), 15 GPIO0 (io), 16 GPIO4 (io), 17 VDDPST (power), 18 SDIO_DATA_2 (io), 19 SDIO_DATA_3 (io), 20 SDIO_CMD (io), 21 SDIO_CLK (io), 22 SDIO_DATA_0 (io), 23 SDIO_DATA_1 (io), 24 GPIO5 (io), 25 U0RXD (io), 26 U0TXD (io), 27 XTAL_OUT (io), 28 XTAL_IN (io), 29 VDDD (power), 30 VDDA (power), 31 RES12K (in), 32 ~{EXT_RSTB} (in), 33 GND (power)

## ESP 32
designator U?
footprint ESP 32
pins: 0 GND, 1 3V3, 2 EN, 3 SENSOR_VP, 4 SENSOR_VN, 5 IO34, 6 IO35, 7 IO32, 8 IO33, 9 IO25, 10 IO26, 11 IO27, 12 IO14, 13 IO12, 14 GND, 15 IO13, 16 SD2, 17 SD3, 18 CMD, 19 CLK, 20 SD0, 21 SD1, 22 IO15, 23 IO2, 24 IO0, 25 IO4, 26 IO16, 27 IO17, 28 IO5, 29 IO18, 30 IO19, 31 NC, 32 IO21, 33 RXD0, 34 TXD0, 35 IO22, 36 IO23, 37 GND, 38 P_GND
text: ESP-WROOM-32

## ETA3409S2F
designator U?
3MHz 1.5A/2A High ŋ Step-Down Converter in SOT23-5 Package
footprint SOT-23-5
pins: 1 EN, 2 GND, 3 SW, 4 IN, 5 FB

## FAN_12V_1
designator U?, comment FAN_12V
FAN 12V 40*40*10mm . XH Connector; Contributor: novasilisko; timeStamp: 1467237407; Manufacturer Part: ?; spicePre: U
footprint FAN_Connector XH (FAN_Connector XH 2.54mm)
pins: 1 +, 2 -

## FAN_Heatsink
designator U?
55mm Aluminum Heatsink with Cooling Fan; Contributor: novasilisko; timeStamp: 1467237407; Manufacturer Part: ?; spicePre: U
footprint FAN_Heatsink (55mm Aluminum Heatsink with Cooling Fan)
pins: 1 +, 2 -

## FC-135R_32.7680KA-AG0
designator Y?
Crystal 32.7680khz 7.0pf Smt; MF: EPSON; MP: FC-135R 32.7680KA-AG0; Availability: Unavailable; Price: None; Package: SMD-2 Epson; SnapEDA_Link: https://www.snapeda.com/parts/FC-135R%2032.7680KA-AG0/EPSON/view-part/?ref=snap; Value: *
footprint XTALL 32.76khz
pins: 1, 2

## FDN335N
designator Q?
N-Channel 20 V 0.07 Ohm 2.5 V Specified PowerTrench Mosfet SSOT-3; MF: ON Semiconductor; Price: None; SnapEDA_Link: https://www.snapeda.com/parts/FDN335N/ON%20Semiconductor/view-part/?ref=snap; Availability: Unavailable; MP: FDN335N; Package: SC-59 ON Semiconductor; Value: *
footprint FDN335N
pins: 1 G, 2 S, 3 D

## FDS4427
designator Q?
Check_prices: https://www.snapeda.com/parts/FDS2734/ON%20Semiconductor/view-part/1822193/?ref=eda; SnapEDA_Link: https://www.snapeda.com/parts/FDS2734/ON%20Semiconductor/view-part/1822193/?ref=snap; Value: *
footprint FDS4410
pins: D, G, S

## Female pin header 1X5
designator P?
Female pin header 1*5 2.54mm; LatestRevisionDate: 17-Jul-2002; LatestRevisionNote: Re-released for DXP Platform.; Publisher: Altium Limited
footprint Female pin header 1*5 (2.54MM)
pins: 1, 2, 3, 4, 5

## Ferrite _0805
designator L?, comment Ferrite-0805
BLM Series 0805 330 Ohm 400 mA 0.58 Ohm DCR Surface Mount Ferrite Bead; MF: Murata; MP: BLM18BB331SN1D; Package: 0603 Murata; Price: None; Availability: Unavailable; SnapEDA_Link: https://www.snapeda.com/parts/BLM18BB331SN1D/Murata%20Electronics%20North%20America/view-part/?ref=snap; Value: *
footprint Ferrite-0805
pins: 1, 2

## Ferrite _1206
designator L?
MF: Murata; MP: BLM18BB331SN1D; Package: 0603 Murata; Price: None; Availability: Unavailable; SnapEDA_Link: https://www.snapeda.com/parts/BLM18BB331SN1D/Murata%20Electronics%20North%20America/view-part/?ref=snap; Value: *
footprint FERRITE 1206 (1206)
pins: 1, 2

## Ferrite _BLM18BB331SN1D
designator L?, comment Ferrite
BLM Series 0603 330 Ohm 400 mA 0.58 Ohm DCR Surface Mount Ferrite Bead; MF: Murata; MP: BLM18BB331SN1D; Package: 0603 Murata; Price: None; Availability: Unavailable; SnapEDA_Link: https://www.snapeda.com/parts/BLM18BB331SN1D/Murata%20Electronics%20North%20America/view-part/?ref=snap; Value: *
footprint ferrit 0603
pins: 1, 2

## Ferrite_6mm
designator L?, comment Ferrite-6mm
MF: Murata; MP: BLM18BB331SN1D; Package: 0603 Murata; Price: None; Availability: Unavailable; SnapEDA_Link: https://www.snapeda.com/parts/BLM18BB331SN1D/Murata%20Electronics%20North%20America/view-part/?ref=snap; Value: *
footprint Ferrite_6mm
pins: 1, 2

## Fiducial
designator Q?
MF: Toshiba Semiconductor; MP: TPHR8504PL,L1Q; Package: SOP-8 Toshiba; Price: None; Value: *; SnapEDA_Link: https://www.snapeda.com/parts/TPHR8504PL,L1Q/Toshiba%20Semiconductor%20and%20Storage/view-part/604439/?ref=snap; Availability: Unavailable
footprint Fiducial
footprint Fiducial-2layer

## FPC 4Way 0.5mm
designator J?, comment FPC Conn 4
Molex 52745 0.5mm Pitch 4 Way Straight FPC Connector, ZIF Top Contact; Manufacturer_Part_Number: 52745-0497; Geometry.Height: 2mm; Manufacturer_Name: Molex; Mouser Part Number: 538-52745-0497; Mouser Price/Stock: https://www.mouser.co.uk/ProductDetail/Molex/52745-0497?qs=nDwhpid8gJYR8tmzpAxZKw%3D%3D; Arrow Part Number: *; Arrow Price/Stock: *; Datasheet Link: https://www.molex.com/pdm_docs/sd/527450497_sd.pdf
footprint 527450497
pins: 1, 2, 3, 4, MP1, MP2

## FPC-12
designator U20
Socket, r/a, Fpc, Zif, Smt, 10way; MP: 52892-1095; MF: Molex; Availability: Unavailable; SnapEDA_Link: https://www.snapeda.com/parts/52892-1095/Molex/view-part/?ref=snap; Package: None; Price: None; Value: *
footprint FPC-12-0.5mm
pins: 1, 2, 3, 4, 5, 6, 7, 8, 9, 10, 11, 12

## FR9886SOGTR
designator IC?
Regulator SOP-8; Manufacturer_Name: Fitipower; Manufacturer_Part_Number: FR9886SOGTR; Datasheet Link: https://www.insidegadgets.com/wp-content/uploads/2015/03/FR9886.pdf; Height: 1.75mm
footprint FR9886
pins: 1 BOOST, 2 VIN, 3 LX, 4 GND, 5 FB, 6 NC, 7 EN, 8 SS

## HC-05
designator U?
footprint HC-05 (Bluetooth module)
pins: 1 TX, 2 RX, 3 CTS, 4 RTS, 5 PCM CLK, 6 PCM OUT, 7 PCM IN, 8 PCM SYNC, 9 AIO0, 10 AIO1, 11 RTS, 12 3.3V, 13 GND, 14 NC, 15 USB D-, 16 CSB, 17 MOSI, 18 MISO, 19 CLK, 20 USB D+, 21 GND, 22 GND, 23 PIO0, 24 PIO1, 25 PIO2, 26 PIO3, 27 PIO4, 28 PIO5, 29 PIO6, 30 PIO7, 31 PIO8, 32 PIO9, 33 PIO10, 34 PIO11

## header box _ idc_10 pin
designator J?, comment idc-10  (value not drawn)
IDC LOW PRO HDR 10P VERT BLUE; Product_Type: Connector; Centerline_Pitch: 2.54 mm[.1 in]; MP: 2-1761603-3; Number_of_Positions: 10; MF: TE Connectivity; Availability: Unavailable; Package: None; EU_RoHS_Compliance: Compliant; SnapEDA_Link: https://www.snapeda.com/parts/2-1761603-3/TE%20Connectivity%20AMP%20Connectors/view-part/?ref=snap; Price: None; TE_purchase_URL: https://www.te.com/usa-en/product-2-1761603-3.html?te_bu=Cor&te_type=disp&te_campaign=seda_glo_cor-seda-global-disp-prtnr-fy19-seda-model-bom-cta_sma-317_1&elqCampaignId=32493; Value: *
footprint IDC_10
pins: 1, 2, 3, 4, 5, 6, 7, 8, 9, 10

## Header box _IDC _06
designator J?, comment idc -6pin  (value not drawn)
Product_Type: Connector; Centerline_Pitch: 2.54 mm[.1 in]; MP: 2-1761606-6; Number_of_Positions: 16; MF: TE Connectivity; Availability: Unavailable; Package: None; EU_RoHS_Compliance: Compliant; SnapEDA_Link: https://www.snapeda.com/parts/2-1761606-6/TE%20Connectivity%20AMP%20Connectors/view-part/?ref=snap; Price: None; TE_purchase_URL: https://www.te.com/usa-en/product-2-1761606-6.html?te_bu=Cor&te_type=disp&te_campaign=seda_glo_cor-seda-global-disp-prtnr-fy19-seda-model-bom-cta_sma-317_1&elqCampaignId=32493; Value: *
footprint IDC_06
pins: 1, 2, 3, 4, 5, 6

## Header box _IDC _12
designator J?, comment idc -12pin  (value not drawn)
IDC LOW PRO HDR 16P VERT LG LAT BLUE; Product_Type: Connector; Centerline_Pitch: 2.54 mm[.1 in]; MP: 2-1761606-6; Number_of_Positions: 16; MF: TE Connectivity; Availability: Unavailable; Package: None; EU_RoHS_Compliance: Compliant; SnapEDA_Link: https://www.snapeda.com/parts/2-1761606-6/TE%20Connectivity%20AMP%20Connectors/view-part/?ref=snap; Price: None; TE_purchase_URL: https://www.te.com/usa-en/product-2-1761606-6.html?te_bu=Cor&te_type=disp&te_campaign=seda_glo_cor-seda-global-disp-prtnr-fy19-seda-model-bom-cta_sma-317_1&elqCampaignId=32493; Value: *
footprint IDC_12
pins: 1, 2, 3, 4, 5, 6, 7, 8, 9, 10, 11, 12

## Header box _IDC _16
designator J?, comment idc -16pin  (value not drawn)
IDC LOW PRO HDR 16P VERT LG LAT BLUE; Product_Type: Connector; Centerline_Pitch: 2.54 mm[.1 in]; MP: 2-1761606-6; Number_of_Positions: 16; MF: TE Connectivity; Availability: Unavailable; Package: None; EU_RoHS_Compliance: Compliant; SnapEDA_Link: https://www.snapeda.com/parts/2-1761606-6/TE%20Connectivity%20AMP%20Connectors/view-part/?ref=snap; Price: None; TE_purchase_URL: https://www.te.com/usa-en/product-2-1761606-6.html?te_bu=Cor&te_type=disp&te_campaign=seda_glo_cor-seda-global-disp-prtnr-fy19-seda-model-bom-cta_sma-317_1&elqCampaignId=32493; Value: *
footprint IDC_16
pins: 1, 2, 3, 4, 5, 6, 7, 8, 9, 10, 11, 12, 13, 14, 15, 16

## Header box R_IDC _16
designator J?, comment idc -16pin  (value not drawn)
IDC LOW PRO HDR 16P VERT LG LAT BLUE; Product_Type: Connector; Centerline_Pitch: 2.54 mm[.1 in]; MP: 2-1761606-6; Number_of_Positions: 16; MF: TE Connectivity; Availability: Unavailable; Package: None; EU_RoHS_Compliance: Compliant; SnapEDA_Link: https://www.snapeda.com/parts/2-1761606-6/TE%20Connectivity%20AMP%20Connectors/view-part/?ref=snap; Price: None; TE_purchase_URL: https://www.te.com/usa-en/product-2-1761606-6.html?te_bu=Cor&te_type=disp&te_campaign=seda_glo_cor-seda-global-disp-prtnr-fy19-seda-model-bom-cta_sma-317_1&elqCampaignId=32493; Value: *
footprint IDC_R_16
pins: 1, 2, 3, 4, 5, 6, 7, 8, 9, 10, 11, 12, 13, 14, 15, 16

## HMC5883L
designator ?
Digital Compass +/- 0.8g, Lcc-16; MF: Honeywell Aerospace; MP: HMC5883L-T; SnapEDA_Link: https://www.snapeda.com/parts/HMC5883L-T/Honeywell%20Aerospace/view-part/?ref=snap; Availability: Unavailable; Package: LCC-16 Honeywell; Price: None; Value: *
footprint *LPCC-16
pins: 1 SCL (io), 2 VDD (io), 4 S1 (io), 8 SETP (io), 9 GND (io), 10 C1 (io), 11 GND (io), 12 SETC (io), 13 VDDIO (io), 15 DRDY (io), 16 SDA (io)

## Holder_Fuse_5*20mm 2Pin
designator F?, comment FUSE  (value not drawn)
glass Holder Fuse 10mm
footprint Holder_Fuse - 20*5mm 2Pin
pins: 1, 2

## Holder_Fuse_5*20mm 4Pin
designator F?, comment FUSE  (value not drawn)
glass Holder Fuse 10mm
footprint Holder_Fuse 20*5mm 4Pin
pins: 1, 2

## HT66F004 - 16Pin
designator U4
footprint HT66F004 - 16Pin (NSOP-16)
pins: 1 VSS/AVSS, 2 PC0/SCOM0, 3 PC1/SCOM1, 4 PC2/~{RES}, 5 PA0/PTP0, 6 PA1/PTP0I, 7 PA2/ICPCK, 8 PA3/PTP1I, 9 PA7/PTP1/AN6, 10 PA6/AN5/VREFO, 11 PA5/AN4/VREF, 12 PA4/PTCK1/AN3, 13 PB2/PTCK0/AN2, 14 PB1/INT1/AN1, 15 PB0/INT0/AN0, 16 VDD/AVDD

## HX711
designator U?
footprint DBQ016 (SSOP; 16 Leads; Body Width 3.9 mm; Pitch 0.635 mm)
pins: 1 VSUP, 2 VBASE, 3 AVDD, 4 VFB, 5 AGND, 6 VBG, 7 INA-, 8 INA+, 9 INB-, 10 INB+, 11 PD_SCK, 12 DOUT, 13 XO, 14 XI, 15 RATE, 16 VDD

## IMP809REUR/T(2.63V)
designator U?
Power Supply Supervisor
footprint SOT23-3 (SOT23, 3 pin)
pins: 1 GND, 2 RESET#, 3 VCC

## INDUCTOR
designator L?, comment DR127-330-R
Inductor Power Shielded Drum Core 33.92uH/33uH 20% 100KHz Ferrite 3.23A 60mOhm DCR T/R; MF: Eaton; Price: None; MP: DR127-330-R; Package: Nonstandard Eaton; Availability: Unavailable; SnapEDA_Link: https://www.snapeda.com/parts/DR127-330-R/Eaton/view-part/?ref=snap; Value: *
footprint inductor
pins: 1, 2

## INDUCTOR 5.3*6.3
designator L?, comment 33uH, 5.3*6.3
Inductor round 5.3*6.3; MP: DR127-330-R; MF: Eaton; Price: None; Package: Nonstandard Eaton; Availability: Unavailable; SnapEDA_Link: https://www.snapeda.com/parts/DR127-330-R/Eaton/view-part/?ref=snap; Value: *
footprint Inductor SMD 5.3x6.3mm (Inductor 4.7µH SMD 5.3*6.3mm)
pins: 1, 2

## INDUCTOR 6.8*6.8*3
designator L?
MP: DR127-330-R; MF: Eaton; Price: None; Package: Nonstandard Eaton; Availability: Unavailable; SnapEDA_Link: https://www.snapeda.com/parts/DR127-330-R/Eaton/view-part/?ref=snap; Value: *
footprint INDUCTOR 6.8*6.8*3 (Inductor, 2-Leads)
pins: 1, 2

## INDUCTOR 8*7
designator L?, comment 33uH, 8*7
Inductor round 8*7; MP: DR127-330-R; MF: Eaton; Price: None; Package: Nonstandard Eaton; Availability: Unavailable; SnapEDA_Link: https://www.snapeda.com/parts/DR127-330-R/Eaton/view-part/?ref=snap; Value: *
footprint Inductor 8*7 (Inductor, 2-Leads)
pins: 1, 2

## Inductor 10*10
designator L?, comment 10uH
TMPC1004H-100MG-D; Value: 10uH
footprint TMPC 1004H-470MG-D
pins: 1, 2

## INDUCTOR 12*12
designator L?, comment 10uH, 12*12
Inductor round 12*12; MP: DR127-330-R; MF: Eaton; Price: None; Package: Nonstandard Eaton; Availability: Unavailable; SnapEDA_Link: https://www.snapeda.com/parts/DR127-330-R/Eaton/view-part/?ref=snap; Value: *
footprint inductor 12*12
pins: 1, 2

## INDUCTOR RLB0603
designator L?, comment RLB0603
INDUCTOR Power RLB0603; MP: DR127-330-R; MF: Eaton; Price: None; Package: Nonstandard Eaton; Availability: Unavailable; SnapEDA_Link: https://www.snapeda.com/parts/DR127-330-R/Eaton/view-part/?ref=snap; Value: *
footprint INDUCTOR DIP RLB0603 (INDUCTOR DIP  RLB0603)
pins: 1, 2

## INDUCTOR RLB0812
designator L?, comment RLB0812
INDUCTOR Power RLB0812; MP: DR127-330-R; MF: Eaton; Price: None; Package: Nonstandard Eaton; Availability: Unavailable; SnapEDA_Link: https://www.snapeda.com/parts/DR127-330-R/Eaton/view-part/?ref=snap; Value: *
footprint INDUCTOR DIP RLB0812 (INDUCTOR DIP  12*8 RLB0812)
pins: 1, 2

## INDUCTOR RLB0914
designator L?, comment RLB0914
INDUCTOR POWER RLB0914; MP: DR127-330-R; MF: Eaton; Price: None; Package: Nonstandard Eaton; Availability: Unavailable; SnapEDA_Link: https://www.snapeda.com/parts/DR127-330-R/Eaton/view-part/?ref=snap; Value: *
footprint INDUCTOR DIP RLB0914
pins: 1, 2

## INDUCTOR_Dip_0812
designator L?, comment L0812
INDUCTOR Power 0812; MP: DR127-330-R; MF: Eaton; Price: None; Package: Nonstandard Eaton; Availability: Unavailable; SnapEDA_Link: https://www.snapeda.com/parts/DR127-330-R/Eaton/view-part/?ref=snap; Value: *
footprint INDUCTOR_DIP 0812 (INDUCTOR DIP  8*12)
pins: 1, 2

## INDUCTOR_SMD
designator L?, comment H, 0603
Inductor smd; MP: DR127-330-R; MF: Eaton; Price: None; Package: Nonstandard Eaton; Availability: Unavailable; SnapEDA_Link: https://www.snapeda.com/parts/DR127-330-R/Eaton/view-part/?ref=snap; Value: *
footprint inductor 0603
pins: 1, 2

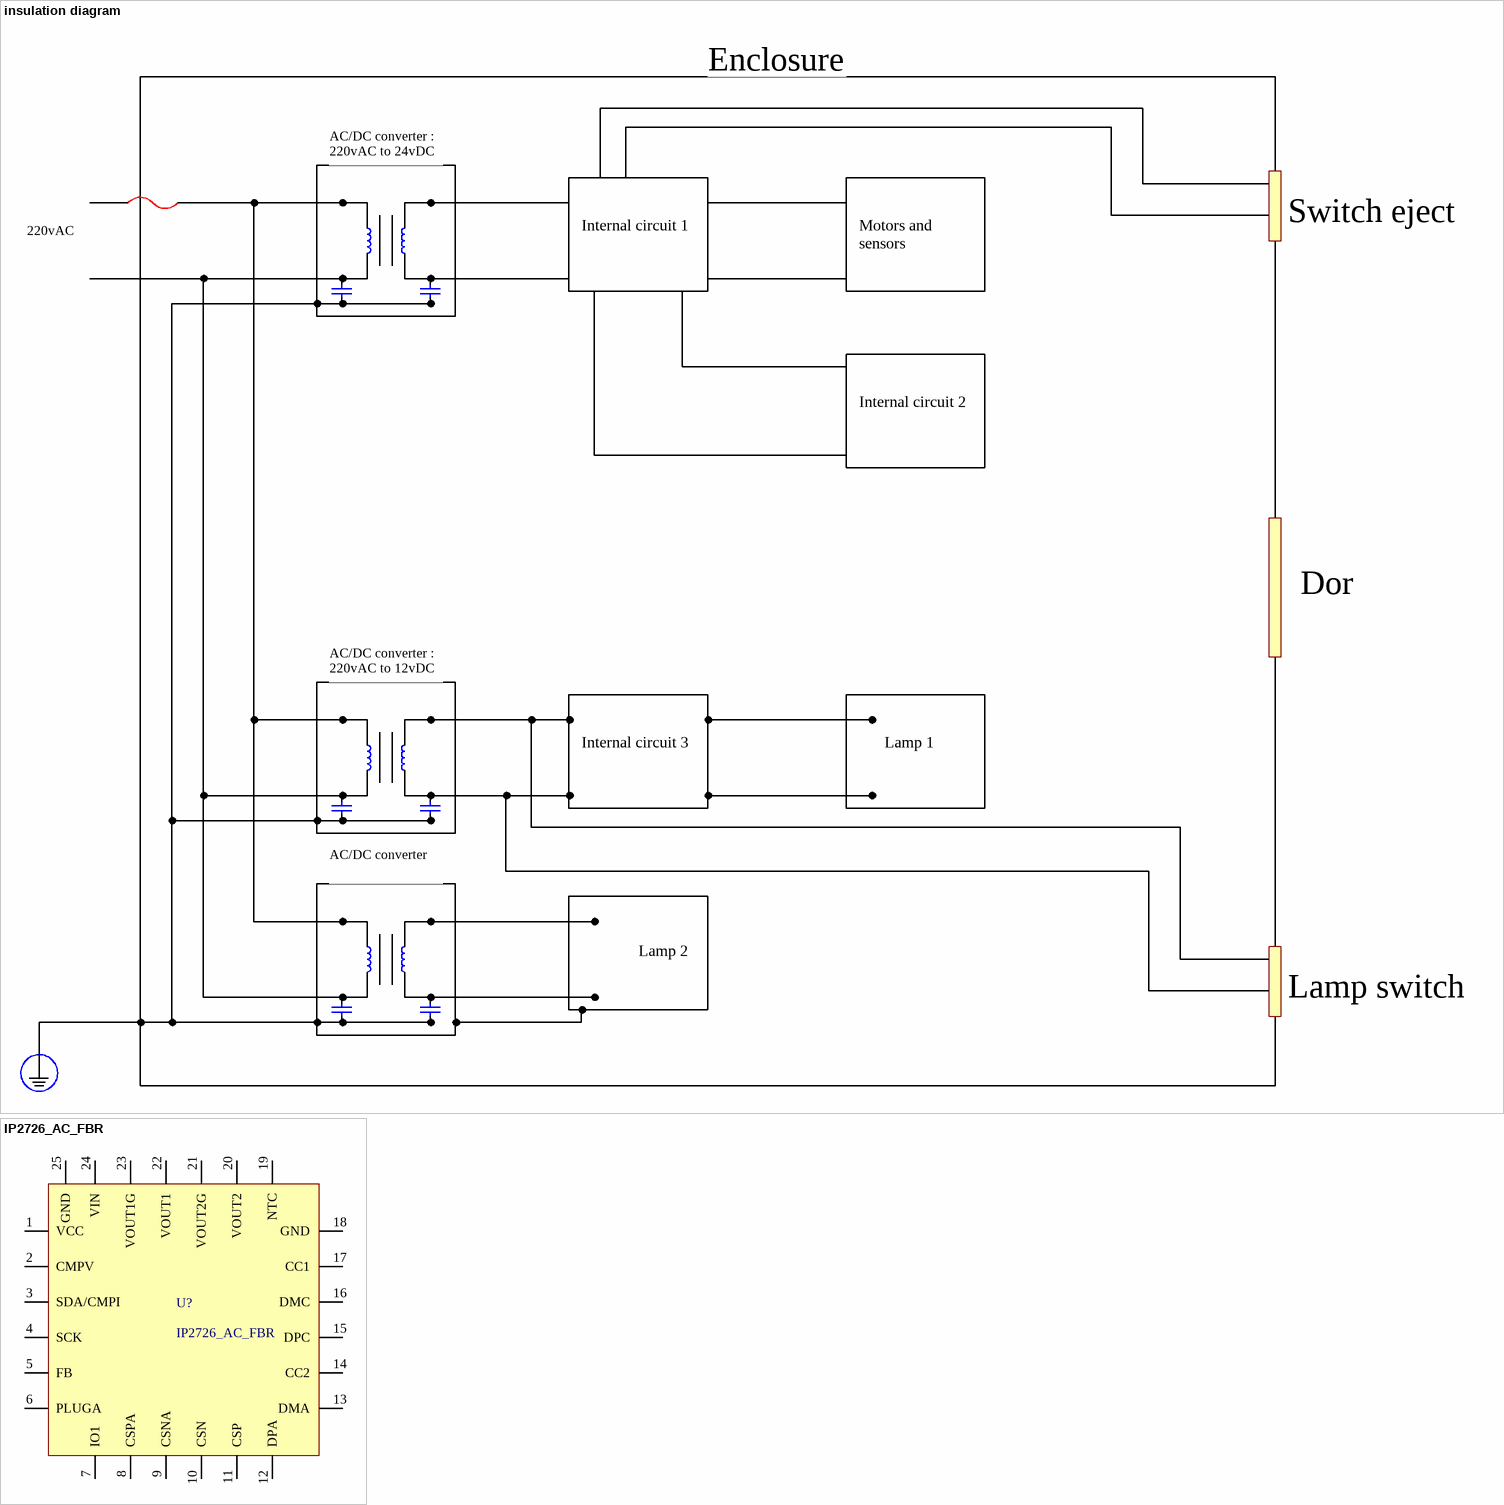
[diagram p8: symbols insulation diagram to IP2726_AC_FBR]

## insulation diagram
designator d?  (value not drawn)
pins: 1, 1, 1, 1, 1, 1, 2, 2, 2, 2, 2, 2
text: Enclosure; AC/DC converter : 220vAC to 24vDC; Switch eject; Internal circuit 1; Motors and sensors; 220vAC; Internal circuit 2; Dor; AC/DC converter : 220vAC to 12vDC; Lamp 1; Internal circuit 3; AC/DC converter; Lamp 2; Lamp switch

## IP2726_AC_FBR
designator U?
footprint IP2726_AC_FBR-QFN24-4*4mm
pins: 1 VCC, 2 CMPV, 3 SDA/CMPI, 4 SCK, 5 FB, 6 PLUGA, 7 IO1, 8 CSPA, 9 CSNA, 10 CSN, 11 CSP, 12 DPA, 13 DMA, 14 CC2, 15 DPC, 16 DMC, 17 CC1, 18 GND, 19 NTC, 20 VOUT2, 21 VOUT2G, 22 VOUT1, 23 VOUT1G, 24 VIN, 25 GND

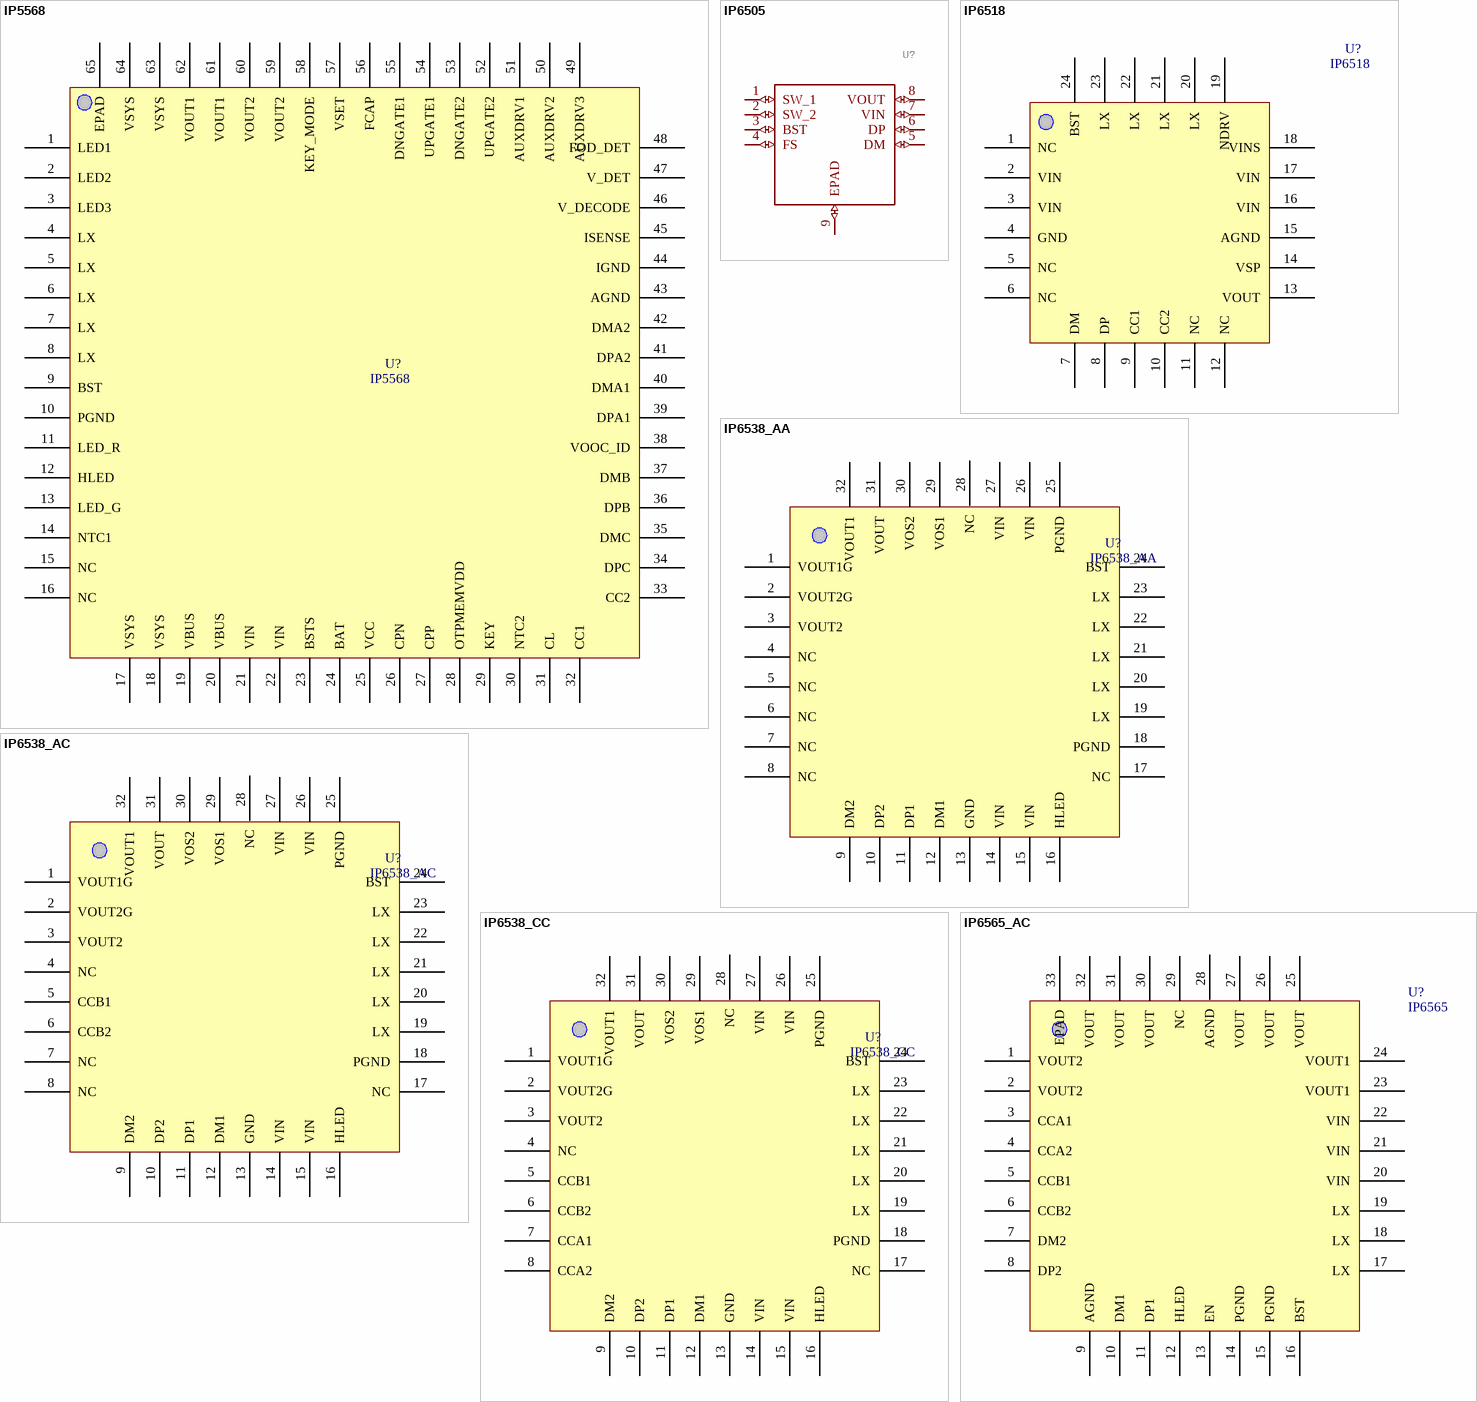
[diagram p9: symbols IP5568 to IP6565_AC]

## IP5568
designator U?
Power Bank And Wireless Charger 15w
footprint IP5568
pins: 1 LED1, 2 LED2, 3 LED3, 4 LX, 5 LX, 6 LX, 7 LX, 8 LX, 9 BST, 10 PGND, 11 LED_R, 12 HLED, 13 LED_G, 14 NTC1, 15 NC, 16 NC, 17 VSYS, 18 VSYS, 19 VBUS, 20 VBUS, 21 VIN, 22 VIN, 23 BSTS, 24 BAT, 25 VCC, 26 CPN, 27 CPP, 28 OTPMEMVDD, 29 KEY, 30 NTC2, 31 CL, 32 CC1, 33 CC2, 34 DPC, 35 DMC, 36 DPB, 37 DMB, 38 VOOC_ID, 39 DPA1, 40 DMA1, 41 DPA2, 42 DMA2, 43 AGND, 44 IGND, 45 ISENSE, 46 V_DECODE, 47 V_DET, 48 FOD_DET, 49 AUXDRV3, 50 AUXDRV2, 51 AUXDRV1, 52 UPGATE2, 53 DNGATE2, 54 UPGATE1, 55 DNGATE1, 56 FCAP, 57 VSET, 58 KEY_MODE, 59 VOUT2, 60 VOUT2, 61 VOUT1, 62 VOUT1, 63 VSYS, 64 VSYS, 65 EPAD

## IP6505
designator U?
FAST CHARGER 9-30  ESOP_8; Manufacturer_Name: INJOINIC; GateName_1: G$1; SymbolName_1: IP6505; LibraryName: IP6505; DeviceSetName: IP6505; Package: SOIC127P600X165-9N; Manufacturer_Part_Number: IP6505; Height: 1.65mm
footprint IP6505
pins: 1 SW_1 (io), 2 SW_2 (io), 3 BST (io), 4 FS (io), 5 DM (io), 6 DP (io), 7 VIN (io), 8 VOUT (io), 9 EPAD (io)

## IP6518
designator U?
DC DC 45 W FAST CHARER TYPE C
footprint IP6518 (DC DC 45W FAST CHAREGR TYPE C)
pins: 1 NC, 2 VIN, 3 VIN, 4 GND, 5 NC, 6 NC, 7 DM, 8 DP, 9 CC1, 10 CC2, 11 NC, 12 NC, 13 VOUT, 14 VSP, 15 AGND, 16 VIN, 17 VIN, 18 VINS, 19 NDRV, 20 LX, 21 LX, 22 LX, 23 LX, 24 BST

## IP6538_AA
designator U?
DC DC FAST CHARGER TYPE C DUAL
footprint IP6538 (15w Wirless charger ic)
pins: 1 VOUT1G, 2 VOUT2G, 3 VOUT2, 4 NC, 5 NC, 6 NC, 7 NC, 8 NC, 9 DM2, 10 DP2, 11 DP1, 12 DM1, 13 GND, 14 VIN, 15 VIN, 16 HLED, 17 NC, 18 PGND, 19 LX, 20 LX, 21 LX, 22 LX, 23 LX, 24 BST, 25 PGND, 26 VIN, 27 VIN, 28 NC, 29 VOS1, 30 VOS2, 31 VOUT, 32 VOUT1

## IP6538_AC
designator U?
DC DC FAST CHARGER TYPE C DUAL
footprint IP6538 (15w Wirless charger ic)
pins: 1 VOUT1G, 2 VOUT2G, 3 VOUT2, 4 NC, 5 CCB1, 6 CCB2, 7 NC, 8 NC, 9 DM2, 10 DP2, 11 DP1, 12 DM1, 13 GND, 14 VIN, 15 VIN, 16 HLED, 17 NC, 18 PGND, 19 LX, 20 LX, 21 LX, 22 LX, 23 LX, 24 BST, 25 PGND, 26 VIN, 27 VIN, 28 NC, 29 VOS1, 30 VOS2, 31 VOUT, 32 VOUT1

## IP6538_CC
designator U?
DC DC FAST CHARGER TYPE C DUAL
footprint IP6538 (15w Wirless charger ic)
pins: 1 VOUT1G, 2 VOUT2G, 3 VOUT2, 4 NC, 5 CCB1, 6 CCB2, 7 CCA1, 8 CCA2, 9 DM2, 10 DP2, 11 DP1, 12 DM1, 13 GND, 14 VIN, 15 VIN, 16 HLED, 17 NC, 18 PGND, 19 LX, 20 LX, 21 LX, 22 LX, 23 LX, 24 BST, 25 PGND, 26 VIN, 27 VIN, 28 NC, 29 VOS1, 30 VOS2, 31 VOUT, 32 VOUT1

## IP6565_AC
designator U?, comment IP6565
DC DC FAST CHARGER
footprint IP6565 (QFN32 4*4)
pins: 1 VOUT2, 2 VOUT2, 3 CCA1, 4 CCA2, 5 CCB1, 6 CCB2, 7 DM2, 8 DP2, 9 AGND, 10 DM1, 11 DP1, 12 HLED, 13 EN, 14 PGND, 15 PGND, 16 BST, 17 LX, 18 LX, 19 LX, 20 VIN, 21 VIN, 22 VIN, 23 VOUT1, 24 VOUT1, 25 VOUT, 26 VOUT, 27 VOUT, 28 AGND, 29 NC, 30 VOUT, 31 VOUT, 32 VOUT, 33 EPAD

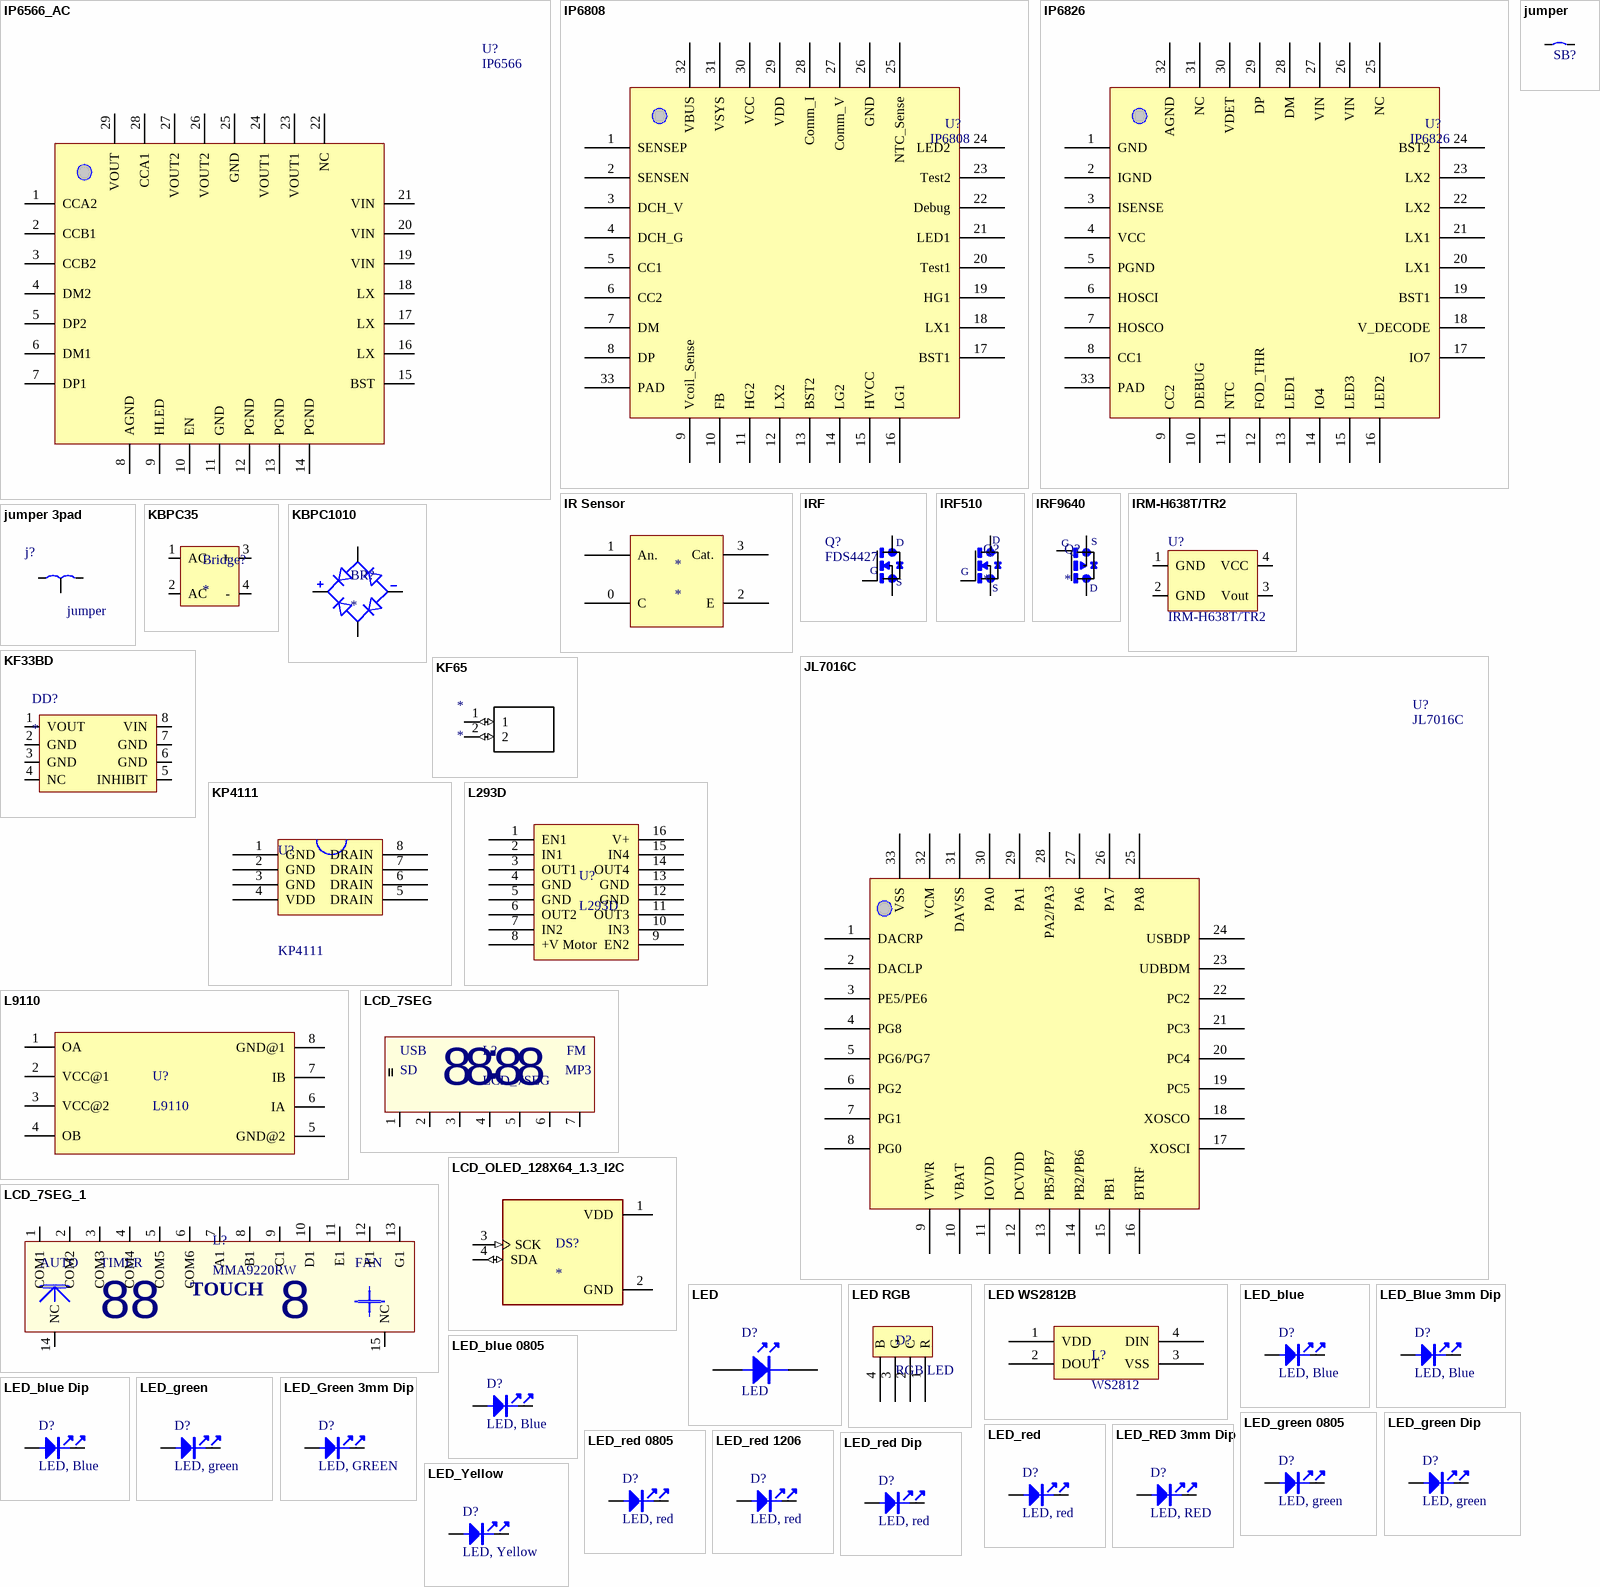
[diagram p10: symbols IP6566_AC to LED_Yellow]

## IP6566_AC
designator U?, comment IP6566
footprint IP6566
pins: 1 CCA2, 2 CCB1, 3 CCB2, 4 DM2, 5 DP2, 6 DM1, 7 DP1, 8 AGND, 9 HLED, 10 EN, 11 GND, 12 PGND, 13 PGND, 14 PGND, 15 BST, 16 LX, 17 LX, 18 LX, 19 VIN, 20 VIN, 21 VIN, 22 NC, 23 VOUT1, 24 VOUT1, 25 GND, 26 VOUT2, 27 VOUT2, 28 CCA1, 29 VOUT

## IP6808
designator U?
Wireless Charger 10W
footprint IP6826 (15w Wirless charger ic)
pins: 1 SENSEP, 2 SENSEN, 3 DCH_V, 4 DCH_G, 5 CC1, 6 CC2, 7 DM, 8 DP, 9 Vcoil_Sense, 10 FB, 11 HG2, 12 LX2, 13 BST2, 14 LG2, 15 HVCC, 16 LG1, 17 BST1, 18 LX1, 19 HG1, 20 Test1, 21 LED1, 22 Debug, 23 Test2, 24 LED2, 25 NTC_Sense, 26 GND, 27 Comm_V, 28 Comm_I, 29 VDD, 30 VCC, 31 VSYS, 32 VBUS, 33 PAD

## IP6826
designator U?
Wireless Charger 15w
footprint IP6826 (15w Wirless charger ic)
pins: 1 GND, 2 IGND, 3 ISENSE, 4 VCC, 5 PGND, 6 HOSCI, 7 HOSCO, 8 CC1, 9 CC2, 10 DEBUG, 11 NTC, 12 FOD_THR, 13 LED1, 14 IO4, 15 LED3, 16 LED2, 17 IO7, 18 V_DECODE, 19 BST1, 20 LX1, 21 LX1, 22 LX2, 23 LX2, 24 BST2, 25 NC, 26 VIN, 27 VIN, 28 DM, 29 DP, 30 VDET, 31 NC, 32 AGND, 33 PAD

## IR Sensor
designator *
footprint IR PRO
footprint Model Name (Model Description)
pins: 0 C, 1 An., 2 E, 3 Cat.

## IRF
designator Q?, comment FDS4427
Check_prices: https://www.snapeda.com/parts/FDS2734/ON%20Semiconductor/view-part/1822193/?ref=eda; SnapEDA_Link: https://www.snapeda.com/parts/FDS2734/ON%20Semiconductor/view-part/1822193/?ref=snap; Value: *
footprint FDS4410
pins: D, G, S

## IRF510
designator Q?
N-Channel 100V 5.6A (Tc) 43W (Tc) Through Hole TO-220AB; MP: IRF510; MF: Vishay Siliconix; Package: TO-220-3 ON Semiconductor; Value: *; Price: None; Availability: Bad; SnapEDA_Link: https://www.snapeda.com/parts/IRF510/Vishay%20Siliconix/view-part/2759039/?ref=snap; Check_prices: https://www.snapeda.com/parts/IRF510/Vishay%20Siliconix/view-part/2759039/?ref=eda
footprint IRF510
pins: 1 S, 2 D, 3 G

## IRF9640
designator Q?
P-Channel 200V 11A _Tc_ 125W _Tc_ Through Hole TO-220AB; MP: IRF9640; MF: Vishay / Siliconix; SnapEDA_Link: https://www.snapeda.com/parts/IRF9640/Vishay%20Siliconix/view-part/4544771/?ref=snap; Price: None; Package: TO-220-3 Vishay / Siliconix; Value: *; Availability: Unavailable
footprint IRF9640
pins: 1 G, 2 D, 3 S

## IRM-H638T/TR2
designator U?
footprint IRM-H638T/TR2
pins: 1 GND, 2 GND, 3 Vout, 4 VCC

## JL7016C
designator U?
BlE Chip
footprint JL7016C (QFN32 4*4)
pins: 1 DACRP, 2 DACLP, 3 PE5/PE6, 4 PG8, 5 PG6/PG7, 6 PG2, 7 PG1, 8 PG0, 9 VPWR, 10 VBAT, 11 IOVDD, 12 DCVDD, 13 PB5/PB7, 14 PB2/PB6, 15 PB1, 16 BTRF, 17 XOSCI, 18 XOSCO, 19 PC5, 20 PC4, 21 PC3, 22 PC2, 23 UDBDM, 24 USBDP, 25 PA8, 26 PA7, 27 PA6, 28 PA2/PA3, 29 PA1, 30 PA0, 31 DAVSS, 32 VCM, 33 VSS

## jumper
designator SB?  (value not drawn)
Circuit Breaker; Solder: NO; Revision: July-2002: Re-released for DXP Platform.
footprint JP2_SMD
pins: 1, 2

## jumper 3pad
designator j?, comment jumper
MP: CSTCE16M0V53-R0; MF: Murata; Availability: Unavailable; Package: SMD-3 Murata; Price: None; SnapEDA_Link: https://www.snapeda.com/parts/CSTCE16M0V53-R0/Murata%20Electronics%20North%20America/view-part/?ref=snap; Value: *
footprint Jumper_3
pins: 1, 2 (power), 3

## KBPC35
designator Bridge?
footprint KBPC35
pins: 1 AC, 2 AC, 3 +, 4 -

## KBPC1010
designator BR?
Bridge Rectifier; Manufacturer_Name: MDD£¨Microdiode Electronics£©; Manufacturer_Part_Number: KBPC1010; Datasheet Link: https://datasheet.lcsc.com/szlcsc/1903051202_MDD-Jiangsu-Yutai-Elec-KBPC1010_C3082.pdf; Height: 5.4mm
footprint KBPC1010
pins: 1 P, 2 AC1, 3 N, 4 AC2

## KF33BD
designator DD?
footprint KF33BD
pins: 1 VOUT, 2 GND, 3 GND, 4 NC, 5 INHIBIT, 6 GND, 7 GND, 8 VIN

## KF65
designator *
footprint KF65
pins: 1 (io), 2 (io)

## KP4111
designator U?
Secondary Side Synchronous Rectifier
footprint KP4111 (Secondary Side Synchronous Rectifier  SOP-8)
pins: 1 GND, 2 GND, 3 GND, 4 VDD, 5 DRAIN, 6 DRAIN, 7 DRAIN, 8 DRAIN

## L293D
designator U?
Motor Driver
footprint N016 (DIP; 16 Leads; Row Spacing 7.62 mm; Pitch 2.54 mm)
pins: 1 EN1, 2 IN1, 3 OUT1, 4 GND, 5 GND, 6 OUT2, 7 IN2, 8 +V Motor, 9 EN2, 10 IN3, 11 OUT3, 12 GND, 13 GND, 14 OUT4, 15 IN4, 16 V+

## L9110
designator U?
footprint L9110
pins: 1 OA, 2 VCC@1, 3 VCC@2, 4 OB, 5 GND@2, 6 IA, 7 IB, 8 GND@1

## LCD_7SEG
designator L?
Custom LCD_7SEG
footprint LCD-7SEG
pins: 1, 2, 3, 4, 5, 6, 7
text: USB; FM; SD; MP3; :; 8

## LCD_7SEG_1
designator L?, comment MMA9220RW
Custom LCD_7SEG MMA9220RW
footprint LCD-7SEG_Hood_MMA9220RW (MMA9220RW)
pins: 1 COM1, 2 COM2, 3 COM3, 4 COM4, 5 COM5, 6 COM6, 7 A1, 8 B1, 9 C1, 10 D1, 11 E1, 12 F1, 13 G1, 14 NC, 15 NC
text: AUTO; TIMER; FAN; TOUCH

## LCD_OLED_128X64_1.3_I2C
designator DS?
Non-Touch Graphic LCD Display Module Transmissive White OLED, Monochrome I2C 1.3 (33.02mm) 128 x 64; MF: UNIVERSAL-SOLDER Electronics Ltd; MP: OLED 128x64 1.3&quot; I2C; SnapEDA_Link: https://www.snapeda.com/parts/OLED%20128x64%201.3%22%20I2C/UNIVERSAL-SOLDER+Electronics+Ltd/view-part/?ref=snap; Package: None; Value: *; Check_prices: https://www.snapeda.com/parts/OLED%20128x64%201.3%22%20I2C/UNIVERSAL-SOLDER+Electronics+Ltd/view-part/?ref=eda
footprint LCD_OLED_128X64_1.3_I2C
pins: 1 VDD (power), 2 GND (power), 3 SCK (in), 4 SDA (io)

## LED
designator D?
footprint LED; pin to pad A>1 K>2
pins: A 1, K 2

## LED RGB
designator D?, comment RGB LED
footprint LED RGB (5mm RGB LED)
pins: 1 R, 2 C, 3 G, 4 B

## LED WS2812B
designator L?, comment WS2812
RGB LED
footprint LED WS2812B (Intelligent control LED  integrated light source)
pins: 1 VDD, 2 DOUT, 3 VSS, 4 DIN

## LED_blue
designator D?, comment LED, Blue
LED, Blue, 0603; Manuf_1: everlight; Manuf_Part_1: 19-213-R6C-AP1Q2B/3T; ECCN_US/EU: EAR99/NEC; Order: 19-213-R6C-AP1Q2B/3T
footprint LED-0603-BLUE
pins: 1, 2
2 alternate drawings of the same symbol

## LED_Blue 3mm Dip
designator D?, comment LED, Blue
LED, Yellow,; Manuf_1: everlight; Manuf_Part_1: 19-213-R6C-AP1Q2B/3T; ECCN_US/EU: EAR99/NEC; Order: 19-213-R6C-AP1Q2B/3T
footprint LED3mm_Blue
pins: 1, 2
2 alternate drawings of the same symbol

## LED_blue 0805
designator D?, comment LED, Blue
LED, Blue, 0805; Manuf_1: everlight; Manuf_Part_1: 19-213-R6C-AP1Q2B/3T; ECCN_US/EU: EAR99/NEC; Order: 19-213-R6C-AP1Q2B/3T
footprint LED-0805-BLUE
pins: 1, 2
2 alternate drawings of the same symbol

## LED_blue Dip
designator D?, comment LED, Blue
LED, Blue,; Manuf_1: everlight; Manuf_Part_1: 19-213-R6C-AP1Q2B/3T; ECCN_US/EU: EAR99/NEC; Order: 19-213-R6C-AP1Q2B/3T
footprint LED5MM_BLUE (LED 5MM THROUGH HOLE BLUE-Designer Abbas Basereh)
pins: 1, 2
2 alternate drawings of the same symbol

## LED_green
designator D?, comment LED, green
LED, green, 0603; Manuf_1: everlight; Manuf_Part_1: 19-213SYGC/S530-E2/TR8; ECCN_US/EU: EAR99/NEC; Order: 19-213SYGC/S530-E2/TR8
footprint LED-0603-GREEN
pins: 1, 2
2 alternate drawings of the same symbol

## LED_Green 3mm Dip
designator D?, comment LED, GREEN
LED, Yellow,; Manuf_1: everlight; Manuf_Part_1: 19-213-R6C-AP1Q2B/3T; ECCN_US/EU: EAR99/NEC; Order: 19-213-R6C-AP1Q2B/3T
footprint LED3mm_GRN
pins: 1, 2
2 alternate drawings of the same symbol

## LED_green 0805
designator D?, comment LED, green
LED, green, 0805; Manuf_1: everlight; Manuf_Part_1: 19-213SYGC/S530-E2/TR8; ECCN_US/EU: EAR99/NEC; Order: 19-213SYGC/S530-E2/TR8
footprint LED-0805-GREEN
pins: 1, 2
2 alternate drawings of the same symbol

## LED_green Dip
designator D?, comment LED, green
LED, green,; Manuf_1: everlight; Manuf_Part_1: 19-213SYGC/S530-E2/TR8; ECCN_US/EU: EAR99/NEC; Order: 19-213SYGC/S530-E2/TR8
footprint LED5MM_GRN (LED 5MM THROUGH HOLE GREEN-Designer Abbas Basereh)
pins: 1, 2
2 alternate drawings of the same symbol

## LED_red
designator D?, comment LED, red
LED, red, 0603; Manuf_1: everlight; Manuf_Part_1: 19-213-R6C-AP1Q2B/3T; ECCN_US/EU: EAR99/NEC; Order: 19-213-R6C-AP1Q2B/3T
footprint LED-0603-RED
pins: 1, 2
2 alternate drawings of the same symbol

## LED_RED 3mm Dip
designator D?, comment LED, RED
LED, Yellow,; Manuf_1: everlight; Manuf_Part_1: 19-213-R6C-AP1Q2B/3T; ECCN_US/EU: EAR99/NEC; Order: 19-213-R6C-AP1Q2B/3T
footprint LED3mm_RED
pins: 1, 2
2 alternate drawings of the same symbol

## LED_red 0805
designator D?, comment LED, red
LED, red, 0805; Manuf_1: everlight; Manuf_Part_1: 19-213-R6C-AP1Q2B/3T; ECCN_US/EU: EAR99/NEC; Order: 19-213-R6C-AP1Q2B/3T
footprint LED-0805-RED
pins: 1, 2
2 alternate drawings of the same symbol

## LED_red 1206
designator D?, comment LED, red
LED, red, 1206; Manuf_1: everlight; Manuf_Part_1: 19-213-R6C-AP1Q2B/3T; ECCN_US/EU: EAR99/NEC; Order: 19-213-R6C-AP1Q2B/3T
footprint LED 1206
pins: 1, 2
2 alternate drawings of the same symbol

## LED_red Dip
designator D?, comment LED, red
LED, red,; Manuf_1: everlight; Manuf_Part_1: 19-213-R6C-AP1Q2B/3T; ECCN_US/EU: EAR99/NEC; Order: 19-213-R6C-AP1Q2B/3T
footprint LED5MM_RED (LED 5MM THROUGH HOLE RED-Designer Abbas Basereh)
pins: 1, 2
2 alternate drawings of the same symbol

## LED_Yellow
designator D?, comment LED, Yellow
LED, Yellow, 0603; Manuf_1: everlight; Manuf_Part_1: 19-213-R6C-AP1Q2B/3T; ECCN_US/EU: EAR99/NEC; Order: 19-213-R6C-AP1Q2B/3T
footprint LED-0603-YELLOW
pins: 1, 2
2 alternate drawings of the same symbol

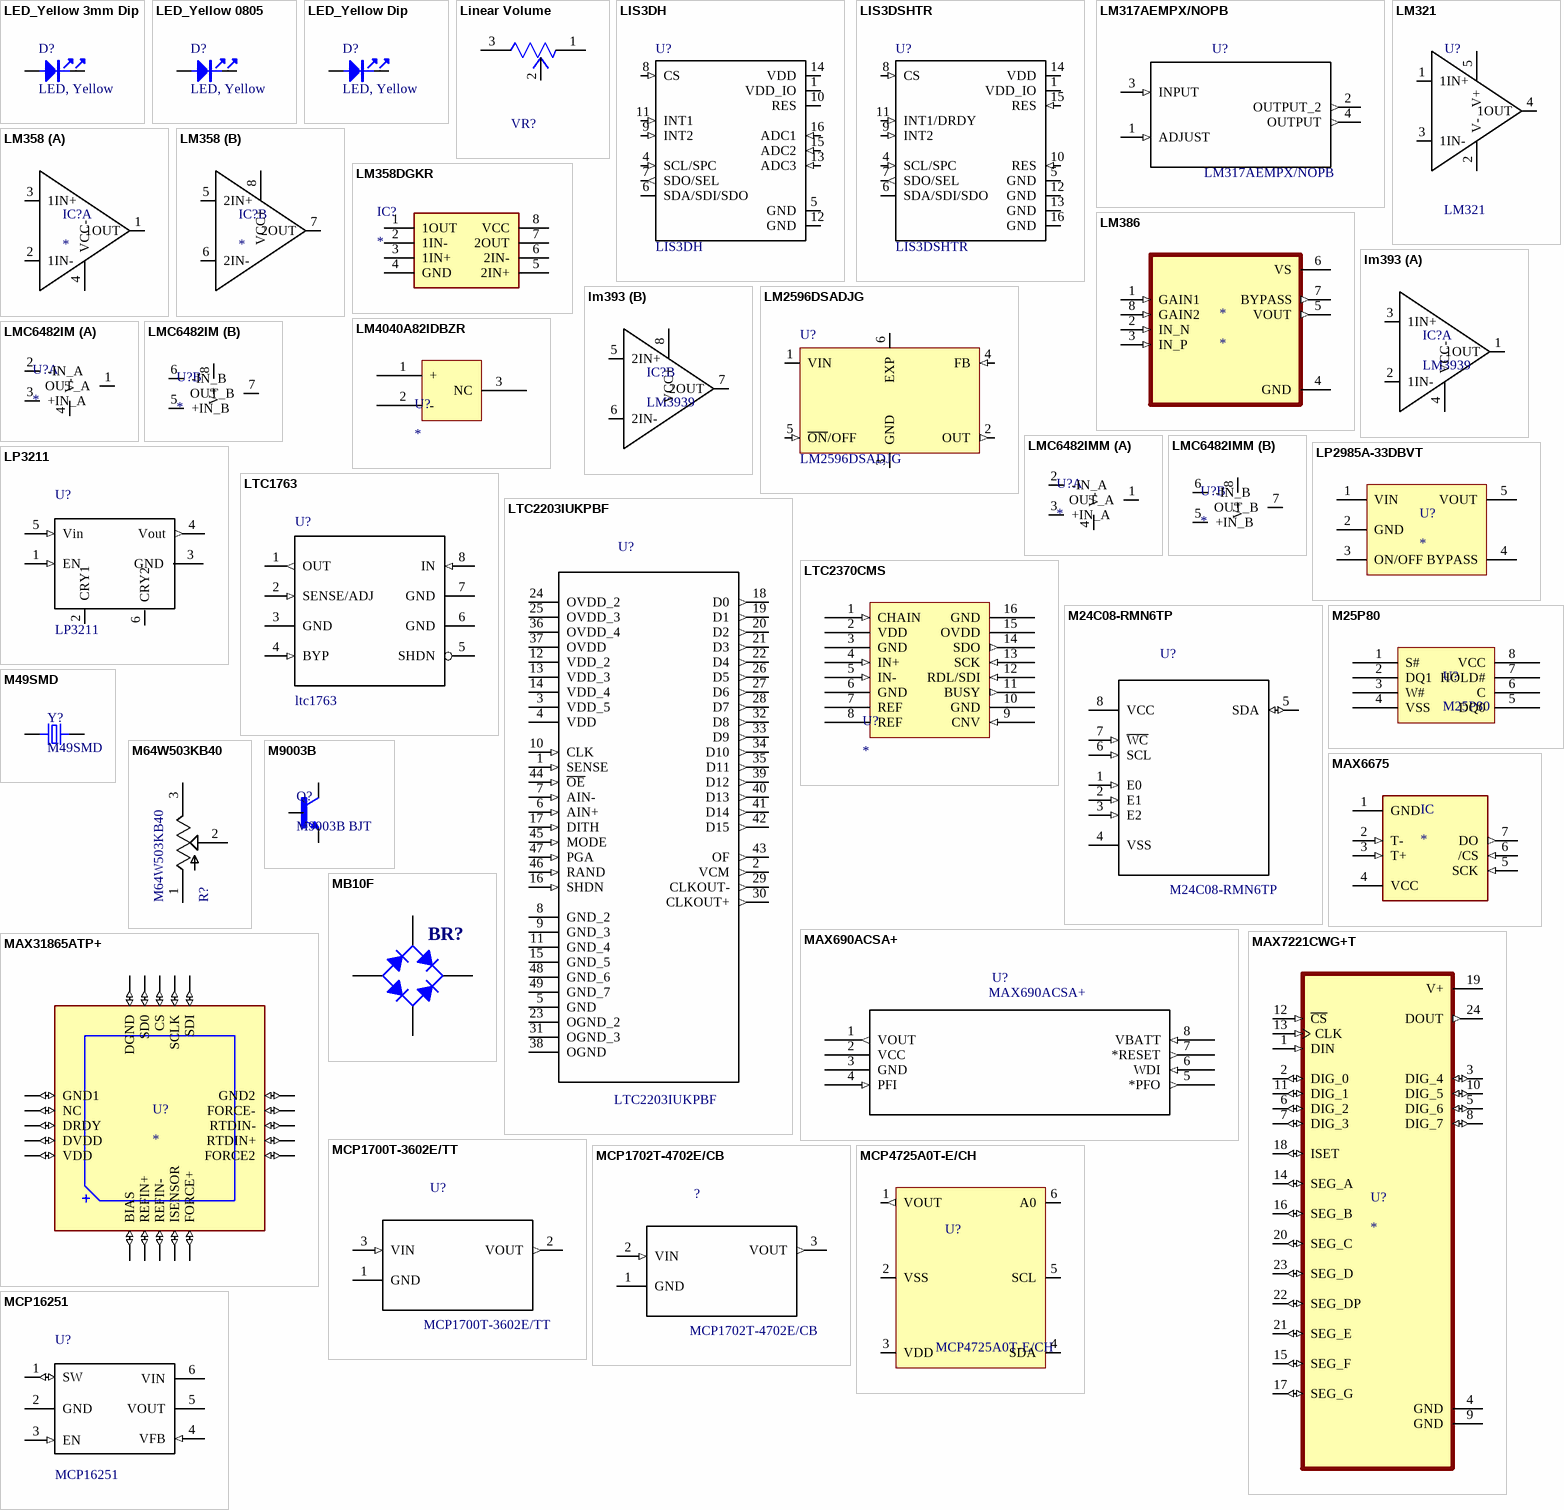
[diagram p11: symbols LED_Yellow 3mm Dip to MCP16251]

## LED_Yellow 3mm Dip
designator D?, comment LED, Yellow
LED, Yellow,; Manuf_1: everlight; Manuf_Part_1: 19-213-R6C-AP1Q2B/3T; ECCN_US/EU: EAR99/NEC; Order: 19-213-R6C-AP1Q2B/3T
footprint LED3mm_Yellow
pins: 1, 2
2 alternate drawings of the same symbol

## LED_Yellow 0805
designator D?, comment LED, Yellow
LED, Yellow, 0805; Manuf_1: everlight; Manuf_Part_1: 19-213-R6C-AP1Q2B/3T; ECCN_US/EU: EAR99/NEC; Order: 19-213-R6C-AP1Q2B/3T
footprint LED-0805-YELLOW
pins: 1, 2
2 alternate drawings of the same symbol

## LED_Yellow Dip
designator D?, comment LED, Yellow
LED, Yellow,; Manuf_1: everlight; Manuf_Part_1: 19-213-R6C-AP1Q2B/3T; ECCN_US/EU: EAR99/NEC; Order: 19-213-R6C-AP1Q2B/3T
footprint LED5MM_YELLOW (LED 5MM THROUGH HOLE YELLOW-Designer Abbas Basereh)
pins: 1, 2
2 alternate drawings of the same symbol

## Linear Volume
designator VR?
RES 10k Ohm 1 Gang Linear Panel Mount Potentiometer None 1 Turn Conductive Plastic 0.2W, 1/5W PC Pins; Manufacturer: TT Electronics; Resistance: 10kΩ; Value: 10kΩ; power_rating: 200 mW; Category 7542B8484461Ae85: Passive Components; Category Cda900A3Fc9B166E: Potentiometers and Accessories; Category 5C6A91606D4187Ad: Resistors; Rotation: 300°; Power: 200mW; resistance_tolerance: ±20%; Num Pins: 3; Category 69C7A4Cd58F4B200: Potentiometers; helpURL: https://upverter.com/upn/revision/f11aaf2c61d2858c/; ComponentLink2Description: Datasheet; Temperature: -20°C to +70°C; Package: PTH_POT_24MM5_17MM0; Supplier 2: Mouser; Price: 0.563263552357; Supplier 1: Digi-Key; ComponentLink1URL: https://upverter.com/upn/revision/f11aaf2c61d2858c/; Supplier Part Number 2: 858-P160KN0QD15B10K; Supplier Part Number 1: 987-1308-ND; ComponentLink1Description: Upverter; ComponentLink2URL: http://www.ttelectronics.com/sites/default/files/download-files/Datasheet_RotaryPanelPot_P160series.pdf; RoHS: TRUE; Mouser Part Number: 858-P160KN0QD15B10K; Temperature Range High: +70°C; Octopart Part Number: ff213646e5e620e6; Digikey Description: RES 10k Ohm 1 Gang Linear Panel Mount Potentiometer None 1 Turn Conductive Plastic 0.2W, 1/5W PC Pins; Digikey Part Number: 987-1308-ND; Type: resistor; Lead Free: yes; Temperature Range Low: -20°C; Mounting Type: pcb; Symbol 0 0: Potentiometer
footprint Linear Volume
pins: 1 CCW, 2 S, 3 CW

## LIS3DH
designator U?
MEMS digital output motion sensor: ultra low-power high performance 3-axes nano accelerometer; MF: STMicroelectronics; MP: LIS3DSHTR; SnapEDA_Link: https://www.snapeda.com/parts/LIS3DSHTR/STMicroelectronics/view-part/?ref=snap; Availability: Unavailable; Package: LGA-16 STMicroelectronics; Price: None; Value: *
footprint *LGA16R50P5X3_300X300X100N
pins: 1 VDD_IO (power), 4 SCL/SPC (in), 5 GND (power), 6 SDA/SDI/SDO (io), 7 SDO/SEL (out), 8 CS (in), 9 INT2 (in), 10 RES (power), 11 INT1 (in), 12 GND (power), 13 ADC3 (in), 14 VDD (power), 15 ADC2 (in), 16 ADC1 (in)